# Altium integrated library Lattice CPLD ispMACH.IntLib: 663 symbols (part 8 of 48)
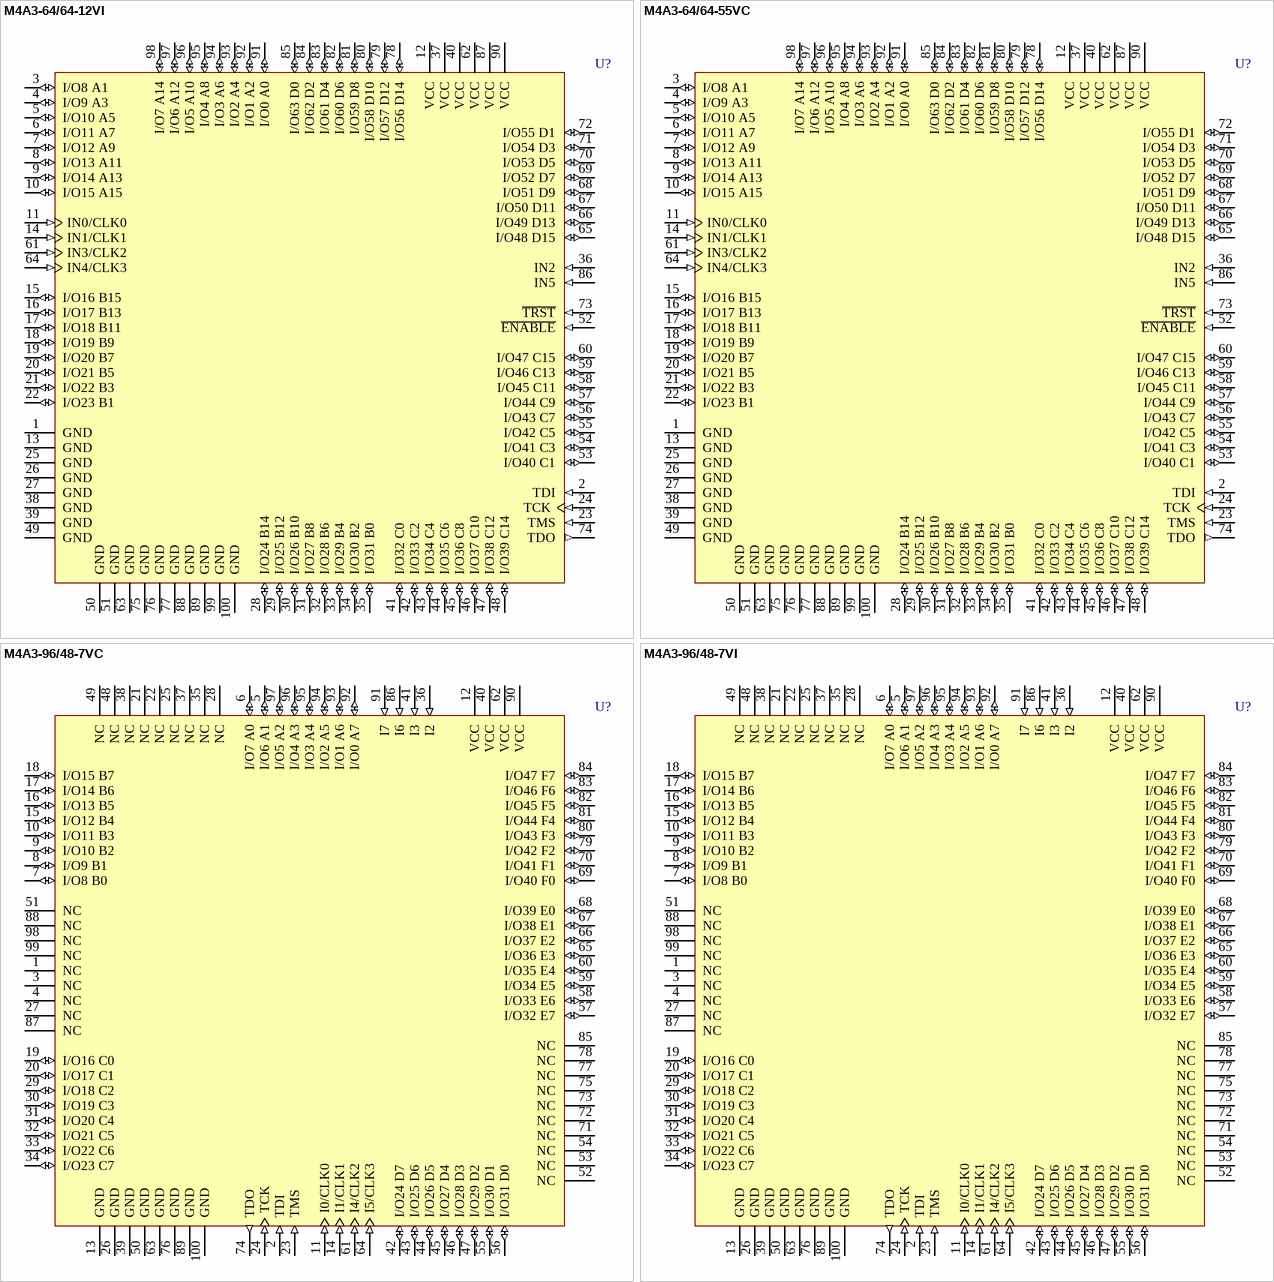
[diagram p313: symbols M4A3-64/64-12VI to M4A3-96/48-7VI]

## M4A3-64/64-55VC
designator U?
High-Performance EE CMOS In-System Programmable Logic; Published: 17-Jul-2002; LatestRevisionDate: 13-Apr-2006; LatestRevisionNote: IPC-7351 Footprint Added.; DatasheetVersion: Feb-2001; PackageVersion: pkg_32, Aug-2005; PackageReference: TQFP100; Publisher: Altium Limited; PackageDescription: 100-Pin Thin Quad Flat Pack (TQFP100); Code_JEDEC: MS-026-BED; ComponentLink1Description: Manufacturer Link; ComponentLink1URL: http://www.latticesemi.com/products/mature/index.cfm; ComponentLink2Description: Datasheet; ComponentLink2URL: http://www.latticesemi.com/account/_download.cfm?AMID=1344
footprint TQFP100_N (Thin QFP, 100-Leads, Body 14x14mm, Pitch 0.5mm, IPC Medium Density)
footprint TQFP100_L (Thin QFP, 100-Leads, Body 14x14mm, Pitch 0.5mm, IPC High Density)
footprint TQFP100_M (Thin QFP, 100-Leads, Body 14x14mm, Pitch 0.5mm, IPC Low Density)
3D model M4A3-TQFP100 (100-Pin Thin Quad Flat Pack (TQFP100))
pins: 1 GND (power), 2 TDI (in), 3 I/O8 A1 (io), 4 I/O9 A3 (io), 5 I/O10 A5 (io), 6 I/O11 A7 (io), 7 I/O12 A9 (io), 8 I/O13 A11 (io), 9 I/O14 A13 (io), 10 I/O15 A15 (io), 11 IN0/CLK0 (in), 12 VCC (power), 13 GND (power), 14 IN1/CLK1 (in), 15 I/O16 B15 (io), 16 I/O17 B13 (io), 17 I/O18 B11 (io), 18 I/O19 B9 (io), 19 I/O20 B7 (io), 20 I/O21 B5 (io), 21 I/O22 B3 (io), 22 I/O23 B1 (io), 23 TMS (in), 24 TCK (in), 25 GND (power), 26 GND (power), 27 GND (power), 28 I/O24 B14 (io), 29 I/O25 B12 (io), 30 I/O26 B10 (io), 31 I/O27 B8 (io), 32 I/O28 B6 (io), 33 I/O29 B4 (io), 34 I/O30 B2 (io), 35 I/O31 B0 (io), 36 IN2 (in), 37 VCC (power), 38 GND (power), 39 GND (power), 40 VCC (power), 41 I/O32 C0 (io), 42 I/O33 C2 (io), 43 I/O34 C4 (io), 44 I/O35 C6 (io), 45 I/O36 C8 (io), 46 I/O37 C10 (io), 47 I/O38 C12 (io), 48 I/O39 C14 (io), 49 GND (power), 50 GND (power), 51 GND (power), 52 ~{ENABLE} (in), 53 I/O40 C1 (io), 54 I/O41 C3 (io), 55 I/O42 C5 (io), 56 I/O43 C7 (io), 57 I/O44 C9 (io), 58 I/O45 C11 (io), 59 I/O46 C13 (io), 60 I/O47 C15 (io), 61 IN3/CLK2 (in), 62 VCC (power), 63 GND (power), 64 IN4/CLK3 (in), 65 I/O48 D15 (io), 66 I/O49 D13 (io), 67 I/O50 D11 (io), 68 I/O51 D9 (io), 69 I/O52 D7 (io), 70 I/O53 D5 (io), 71 I/O54 D3 (io), 72 I/O55 D1 (io), 73 ~{TRST} (in), 74 TDO (out), 75 GND (power), 76 GND (power), 77 GND (power), 78 I/O56 D14 (io), 79 I/O57 D12 (io), 80 I/O58 D10 (io), 81 I/O59 D8 (io), 82 I/O60 D6 (io), 83 I/O61 D4 (io), 84 I/O62 D2 (io), 85 I/O63 D0 (io), 86 IN5 (in), 87 VCC (power), 88 GND (power), 89 GND (power), 90 VCC (power), 91 I/O0 A0 (io), 92 I/O1 A2 (io), 93 I/O2 A4 (io), 94 I/O3 A6 (io), 95 I/O4 A8 (io), 96 I/O5 A10 (io), 97 I/O6 A12 (io), 98 I/O7 A14 (io), 99 GND (power), 100 GND (power)

## M4A3-96/48-7VC
designator U?
High-Performance EE CMOS In-System Programmable Logic; Published: 17-Jul-2002; LatestRevisionDate: 13-Apr-2006; LatestRevisionNote: IPC-7351 Footprint Added.; DatasheetVersion: Feb-2001; PackageVersion: pkg_32, Aug-2005; PackageReference: TQFP100; Publisher: Altium Limited; PackageDescription: 100-Pin Thin Quad Flat Pack (TQFP100); Code_JEDEC: MS-026-BED; ComponentLink1Description: Manufacturer Link; ComponentLink1URL: http://www.latticesemi.com/products/mature/index.cfm; ComponentLink2Description: Datasheet; ComponentLink2URL: http://www.latticesemi.com/account/_download.cfm?AMID=1344
footprint TQFP100_N (Thin QFP, 100-Leads, Body 14x14mm, Pitch 0.5mm, IPC Medium Density)
footprint TQFP100_L (Thin QFP, 100-Leads, Body 14x14mm, Pitch 0.5mm, IPC High Density)
footprint TQFP100_M (Thin QFP, 100-Leads, Body 14x14mm, Pitch 0.5mm, IPC Low Density)
3D model M4A3-TQFP100 (100-Pin Thin Quad Flat Pack (TQFP100))
pins: 1 NC, 2 TDI (in), 3 NC, 4 NC, 5 I/O6 A1 (io), 6 I/O7 A0 (io), 7 I/O8 B0 (io), 8 I/O9 B1 (io), 9 I/O10 B2 (io), 10 I/O11 B3 (io), 11 I0/CLK0 (in), 12 VCC (power), 13 GND (power), 14 I1/CLK1 (in), 15 I/O12 B4 (io), 16 I/O13 B5 (io), 17 I/O14 B6 (io), 18 I/O15 B7 (io), 19 I/O16 C0 (io), 20 I/O17 C1 (io), 21 NC, 22 NC, 23 TMS (in), 24 TCK (in), 25 NC, 26 GND (power), 27 NC, 28 NC, 29 I/O18 C2 (io), 30 I/O19 C3 (io), 31 I/O20 C4 (io), 32 I/O21 C5 (io), 33 I/O22 C6 (io), 34 I/O23 C7 (io), 35 NC, 36 I2 (in), 37 NC, 38 NC, 39 GND (power), 40 VCC (power), 41 I3 (in), 42 I/O24 D7 (io), 43 I/O25 D6 (io), 44 I/O26 D5 (io), 45 I/O27 D4 (io), 46 I/O28 D3 (io), 47 I/O29 D2 (io), 48 NC, 49 NC, 50 GND (power), 51 NC, 52 NC, 53 NC, 54 NC, 55 I/O30 D1 (io), 56 I/O31 D0 (io), 57 I/O32 E7 (io), 58 I/O33 E6 (io), 59 I/O34 E5 (io), 60 I/O35 E4 (io), 61 I4/CLK2 (in), 62 VCC (power), 63 GND (power), 64 I5/CLK3 (in), 65 I/O36 E3 (io), 66 I/O37 E2 (io), 67 I/O38 E1 (io), 68 I/O39 E0 (io), 69 I/O40 F0 (io), 70 I/O41 F1 (io), 71 NC, 72 NC, 73 NC, 74 TDO (out), 75 NC, 76 GND (power), 77 NC, 78 NC, 79 I/O42 F2 (io), 80 I/O43 F3 (io), 81 I/O44 F4 (io), 82 I/O45 F5 (io), 83 I/O46 F6 (io), 84 I/O47 F7 (io), 85 NC, 86 I6 (in), 87 NC, 88 NC, 89 GND (power), 90 VCC (power), 91 I7 (in), 92 I/O0 A7 (io), 93 I/O1 A6 (io), 94 I/O2 A5 (io), 95 I/O3 A4 (io), 96 I/O4 A3 (io), 97 I/O5 A2 (io), 98 NC, 99 NC, 100 GND (power)

## M4A3-96/48-7VI
designator U?
High-Performance EE CMOS In-System Programmable Logic; Published: 17-Jul-2002; LatestRevisionDate: 13-Apr-2006; LatestRevisionNote: IPC-7351 Footprint Added.; DatasheetVersion: Feb-2001; PackageVersion: pkg_32, Aug-2005; PackageReference: TQFP100; Publisher: Altium Limited; PackageDescription: 100-Pin Thin Quad Flat Pack (TQFP100); Code_JEDEC: MS-026-BED; ComponentLink1Description: Manufacturer Link; ComponentLink1URL: http://www.latticesemi.com/products/mature/index.cfm; ComponentLink2Description: Datasheet; ComponentLink2URL: http://www.latticesemi.com/account/_download.cfm?AMID=1344
footprint TQFP100_N (Thin QFP, 100-Leads, Body 14x14mm, Pitch 0.5mm, IPC Medium Density)
footprint TQFP100_L (Thin QFP, 100-Leads, Body 14x14mm, Pitch 0.5mm, IPC High Density)
footprint TQFP100_M (Thin QFP, 100-Leads, Body 14x14mm, Pitch 0.5mm, IPC Low Density)
3D model M4A3-TQFP100 (100-Pin Thin Quad Flat Pack (TQFP100))
pins: 1 NC, 2 TDI (in), 3 NC, 4 NC, 5 I/O6 A1 (io), 6 I/O7 A0 (io), 7 I/O8 B0 (io), 8 I/O9 B1 (io), 9 I/O10 B2 (io), 10 I/O11 B3 (io), 11 I0/CLK0 (in), 12 VCC (power), 13 GND (power), 14 I1/CLK1 (in), 15 I/O12 B4 (io), 16 I/O13 B5 (io), 17 I/O14 B6 (io), 18 I/O15 B7 (io), 19 I/O16 C0 (io), 20 I/O17 C1 (io), 21 NC, 22 NC, 23 TMS (in), 24 TCK (in), 25 NC, 26 GND (power), 27 NC, 28 NC, 29 I/O18 C2 (io), 30 I/O19 C3 (io), 31 I/O20 C4 (io), 32 I/O21 C5 (io), 33 I/O22 C6 (io), 34 I/O23 C7 (io), 35 NC, 36 I2 (in), 37 NC, 38 NC, 39 GND (power), 40 VCC (power), 41 I3 (in), 42 I/O24 D7 (io), 43 I/O25 D6 (io), 44 I/O26 D5 (io), 45 I/O27 D4 (io), 46 I/O28 D3 (io), 47 I/O29 D2 (io), 48 NC, 49 NC, 50 GND (power), 51 NC, 52 NC, 53 NC, 54 NC, 55 I/O30 D1 (io), 56 I/O31 D0 (io), 57 I/O32 E7 (io), 58 I/O33 E6 (io), 59 I/O34 E5 (io), 60 I/O35 E4 (io), 61 I4/CLK2 (in), 62 VCC (power), 63 GND (power), 64 I5/CLK3 (in), 65 I/O36 E3 (io), 66 I/O37 E2 (io), 67 I/O38 E1 (io), 68 I/O39 E0 (io), 69 I/O40 F0 (io), 70 I/O41 F1 (io), 71 NC, 72 NC, 73 NC, 74 TDO (out), 75 NC, 76 GND (power), 77 NC, 78 NC, 79 I/O42 F2 (io), 80 I/O43 F3 (io), 81 I/O44 F4 (io), 82 I/O45 F5 (io), 83 I/O46 F6 (io), 84 I/O47 F7 (io), 85 NC, 86 I6 (in), 87 NC, 88 NC, 89 GND (power), 90 VCC (power), 91 I7 (in), 92 I/O0 A7 (io), 93 I/O1 A6 (io), 94 I/O2 A5 (io), 95 I/O3 A4 (io), 96 I/O4 A3 (io), 97 I/O5 A2 (io), 98 NC, 99 NC, 100 GND (power)

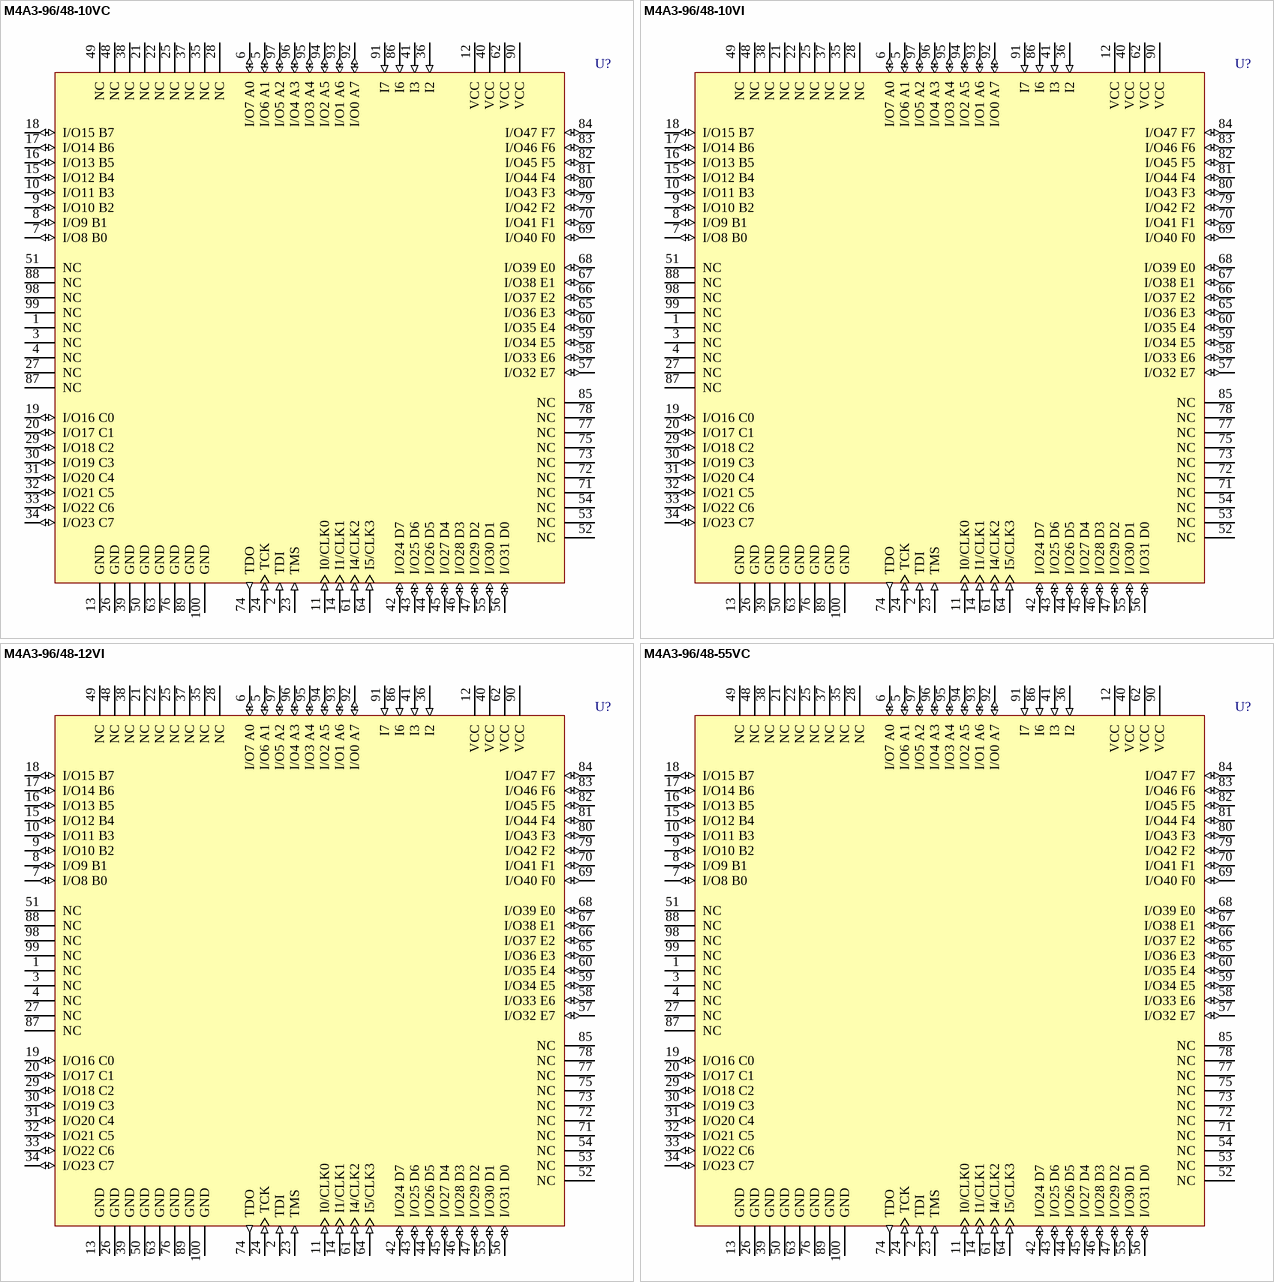
[diagram p31: symbols M4A3-96/48-10VC to M4A3-96/48-55VC]

## M4A3-96/48-10VC
designator U?
High-Performance EE CMOS In-System Programmable Logic; Published: 17-Jul-2002; LatestRevisionDate: 13-Apr-2006; LatestRevisionNote: IPC-7351 Footprint Added.; DatasheetVersion: Feb-2001; PackageVersion: pkg_32, Aug-2005; PackageReference: TQFP100; Publisher: Altium Limited; PackageDescription: 100-Pin Thin Quad Flat Pack (TQFP100); Code_JEDEC: MS-026-BED; ComponentLink1Description: Manufacturer Link; ComponentLink1URL: http://www.latticesemi.com/products/mature/index.cfm; ComponentLink2Description: Datasheet; ComponentLink2URL: http://www.latticesemi.com/account/_download.cfm?AMID=1344
footprint TQFP100_N (Thin QFP, 100-Leads, Body 14x14mm, Pitch 0.5mm, IPC Medium Density)
footprint TQFP100_L (Thin QFP, 100-Leads, Body 14x14mm, Pitch 0.5mm, IPC High Density)
footprint TQFP100_M (Thin QFP, 100-Leads, Body 14x14mm, Pitch 0.5mm, IPC Low Density)
3D model M4A3-TQFP100 (100-Pin Thin Quad Flat Pack (TQFP100))
pins: 1 NC, 2 TDI (in), 3 NC, 4 NC, 5 I/O6 A1 (io), 6 I/O7 A0 (io), 7 I/O8 B0 (io), 8 I/O9 B1 (io), 9 I/O10 B2 (io), 10 I/O11 B3 (io), 11 I0/CLK0 (in), 12 VCC (power), 13 GND (power), 14 I1/CLK1 (in), 15 I/O12 B4 (io), 16 I/O13 B5 (io), 17 I/O14 B6 (io), 18 I/O15 B7 (io), 19 I/O16 C0 (io), 20 I/O17 C1 (io), 21 NC, 22 NC, 23 TMS (in), 24 TCK (in), 25 NC, 26 GND (power), 27 NC, 28 NC, 29 I/O18 C2 (io), 30 I/O19 C3 (io), 31 I/O20 C4 (io), 32 I/O21 C5 (io), 33 I/O22 C6 (io), 34 I/O23 C7 (io), 35 NC, 36 I2 (in), 37 NC, 38 NC, 39 GND (power), 40 VCC (power), 41 I3 (in), 42 I/O24 D7 (io), 43 I/O25 D6 (io), 44 I/O26 D5 (io), 45 I/O27 D4 (io), 46 I/O28 D3 (io), 47 I/O29 D2 (io), 48 NC, 49 NC, 50 GND (power), 51 NC, 52 NC, 53 NC, 54 NC, 55 I/O30 D1 (io), 56 I/O31 D0 (io), 57 I/O32 E7 (io), 58 I/O33 E6 (io), 59 I/O34 E5 (io), 60 I/O35 E4 (io), 61 I4/CLK2 (in), 62 VCC (power), 63 GND (power), 64 I5/CLK3 (in), 65 I/O36 E3 (io), 66 I/O37 E2 (io), 67 I/O38 E1 (io), 68 I/O39 E0 (io), 69 I/O40 F0 (io), 70 I/O41 F1 (io), 71 NC, 72 NC, 73 NC, 74 TDO (out), 75 NC, 76 GND (power), 77 NC, 78 NC, 79 I/O42 F2 (io), 80 I/O43 F3 (io), 81 I/O44 F4 (io), 82 I/O45 F5 (io), 83 I/O46 F6 (io), 84 I/O47 F7 (io), 85 NC, 86 I6 (in), 87 NC, 88 NC, 89 GND (power), 90 VCC (power), 91 I7 (in), 92 I/O0 A7 (io), 93 I/O1 A6 (io), 94 I/O2 A5 (io), 95 I/O3 A4 (io), 96 I/O4 A3 (io), 97 I/O5 A2 (io), 98 NC, 99 NC, 100 GND (power)

## M4A3-96/48-10VI
designator U?
High-Performance EE CMOS In-System Programmable Logic; Published: 17-Jul-2002; LatestRevisionDate: 13-Apr-2006; LatestRevisionNote: IPC-7351 Footprint Added.; DatasheetVersion: Feb-2001; PackageVersion: pkg_32, Aug-2005; PackageReference: TQFP100; Publisher: Altium Limited; PackageDescription: 100-Pin Thin Quad Flat Pack (TQFP100); Code_JEDEC: MS-026-BED; ComponentLink1Description: Manufacturer Link; ComponentLink1URL: http://www.latticesemi.com/products/mature/index.cfm; ComponentLink2Description: Datasheet; ComponentLink2URL: http://www.latticesemi.com/account/_download.cfm?AMID=1344
footprint TQFP100_N (Thin QFP, 100-Leads, Body 14x14mm, Pitch 0.5mm, IPC Medium Density)
footprint TQFP100_L (Thin QFP, 100-Leads, Body 14x14mm, Pitch 0.5mm, IPC High Density)
footprint TQFP100_M (Thin QFP, 100-Leads, Body 14x14mm, Pitch 0.5mm, IPC Low Density)
3D model M4A3-TQFP100 (100-Pin Thin Quad Flat Pack (TQFP100))
pins: 1 NC, 2 TDI (in), 3 NC, 4 NC, 5 I/O6 A1 (io), 6 I/O7 A0 (io), 7 I/O8 B0 (io), 8 I/O9 B1 (io), 9 I/O10 B2 (io), 10 I/O11 B3 (io), 11 I0/CLK0 (in), 12 VCC (power), 13 GND (power), 14 I1/CLK1 (in), 15 I/O12 B4 (io), 16 I/O13 B5 (io), 17 I/O14 B6 (io), 18 I/O15 B7 (io), 19 I/O16 C0 (io), 20 I/O17 C1 (io), 21 NC, 22 NC, 23 TMS (in), 24 TCK (in), 25 NC, 26 GND (power), 27 NC, 28 NC, 29 I/O18 C2 (io), 30 I/O19 C3 (io), 31 I/O20 C4 (io), 32 I/O21 C5 (io), 33 I/O22 C6 (io), 34 I/O23 C7 (io), 35 NC, 36 I2 (in), 37 NC, 38 NC, 39 GND (power), 40 VCC (power), 41 I3 (in), 42 I/O24 D7 (io), 43 I/O25 D6 (io), 44 I/O26 D5 (io), 45 I/O27 D4 (io), 46 I/O28 D3 (io), 47 I/O29 D2 (io), 48 NC, 49 NC, 50 GND (power), 51 NC, 52 NC, 53 NC, 54 NC, 55 I/O30 D1 (io), 56 I/O31 D0 (io), 57 I/O32 E7 (io), 58 I/O33 E6 (io), 59 I/O34 E5 (io), 60 I/O35 E4 (io), 61 I4/CLK2 (in), 62 VCC (power), 63 GND (power), 64 I5/CLK3 (in), 65 I/O36 E3 (io), 66 I/O37 E2 (io), 67 I/O38 E1 (io), 68 I/O39 E0 (io), 69 I/O40 F0 (io), 70 I/O41 F1 (io), 71 NC, 72 NC, 73 NC, 74 TDO (out), 75 NC, 76 GND (power), 77 NC, 78 NC, 79 I/O42 F2 (io), 80 I/O43 F3 (io), 81 I/O44 F4 (io), 82 I/O45 F5 (io), 83 I/O46 F6 (io), 84 I/O47 F7 (io), 85 NC, 86 I6 (in), 87 NC, 88 NC, 89 GND (power), 90 VCC (power), 91 I7 (in), 92 I/O0 A7 (io), 93 I/O1 A6 (io), 94 I/O2 A5 (io), 95 I/O3 A4 (io), 96 I/O4 A3 (io), 97 I/O5 A2 (io), 98 NC, 99 NC, 100 GND (power)

## M4A3-96/48-12VI
designator U?
High-Performance EE CMOS In-System Programmable Logic; Published: 17-Jul-2002; LatestRevisionDate: 13-Apr-2006; LatestRevisionNote: IPC-7351 Footprint Added.; DatasheetVersion: Feb-2001; PackageVersion: pkg_32, Aug-2005; PackageReference: TQFP100; Publisher: Altium Limited; PackageDescription: 100-Pin Thin Quad Flat Pack (TQFP100); Code_JEDEC: MS-026-BED; ComponentLink1Description: Manufacturer Link; ComponentLink1URL: http://www.latticesemi.com/products/mature/index.cfm; ComponentLink2Description: Datasheet; ComponentLink2URL: http://www.latticesemi.com/account/_download.cfm?AMID=1344
footprint TQFP100_N (Thin QFP, 100-Leads, Body 14x14mm, Pitch 0.5mm, IPC Medium Density)
footprint TQFP100_L (Thin QFP, 100-Leads, Body 14x14mm, Pitch 0.5mm, IPC High Density)
footprint TQFP100_M (Thin QFP, 100-Leads, Body 14x14mm, Pitch 0.5mm, IPC Low Density)
3D model M4A3-TQFP100 (100-Pin Thin Quad Flat Pack (TQFP100))
pins: 1 NC, 2 TDI (in), 3 NC, 4 NC, 5 I/O6 A1 (io), 6 I/O7 A0 (io), 7 I/O8 B0 (io), 8 I/O9 B1 (io), 9 I/O10 B2 (io), 10 I/O11 B3 (io), 11 I0/CLK0 (in), 12 VCC (power), 13 GND (power), 14 I1/CLK1 (in), 15 I/O12 B4 (io), 16 I/O13 B5 (io), 17 I/O14 B6 (io), 18 I/O15 B7 (io), 19 I/O16 C0 (io), 20 I/O17 C1 (io), 21 NC, 22 NC, 23 TMS (in), 24 TCK (in), 25 NC, 26 GND (power), 27 NC, 28 NC, 29 I/O18 C2 (io), 30 I/O19 C3 (io), 31 I/O20 C4 (io), 32 I/O21 C5 (io), 33 I/O22 C6 (io), 34 I/O23 C7 (io), 35 NC, 36 I2 (in), 37 NC, 38 NC, 39 GND (power), 40 VCC (power), 41 I3 (in), 42 I/O24 D7 (io), 43 I/O25 D6 (io), 44 I/O26 D5 (io), 45 I/O27 D4 (io), 46 I/O28 D3 (io), 47 I/O29 D2 (io), 48 NC, 49 NC, 50 GND (power), 51 NC, 52 NC, 53 NC, 54 NC, 55 I/O30 D1 (io), 56 I/O31 D0 (io), 57 I/O32 E7 (io), 58 I/O33 E6 (io), 59 I/O34 E5 (io), 60 I/O35 E4 (io), 61 I4/CLK2 (in), 62 VCC (power), 63 GND (power), 64 I5/CLK3 (in), 65 I/O36 E3 (io), 66 I/O37 E2 (io), 67 I/O38 E1 (io), 68 I/O39 E0 (io), 69 I/O40 F0 (io), 70 I/O41 F1 (io), 71 NC, 72 NC, 73 NC, 74 TDO (out), 75 NC, 76 GND (power), 77 NC, 78 NC, 79 I/O42 F2 (io), 80 I/O43 F3 (io), 81 I/O44 F4 (io), 82 I/O45 F5 (io), 83 I/O46 F6 (io), 84 I/O47 F7 (io), 85 NC, 86 I6 (in), 87 NC, 88 NC, 89 GND (power), 90 VCC (power), 91 I7 (in), 92 I/O0 A7 (io), 93 I/O1 A6 (io), 94 I/O2 A5 (io), 95 I/O3 A4 (io), 96 I/O4 A3 (io), 97 I/O5 A2 (io), 98 NC, 99 NC, 100 GND (power)

## M4A3-96/48-55VC
designator U?
High-Performance EE CMOS In-System Programmable Logic; Published: 17-Jul-2002; LatestRevisionDate: 13-Apr-2006; LatestRevisionNote: IPC-7351 Footprint Added.; DatasheetVersion: Feb-2001; PackageVersion: pkg_32, Aug-2005; PackageReference: TQFP100; Publisher: Altium Limited; PackageDescription: 100-Pin Thin Quad Flat Pack (TQFP100); Code_JEDEC: MS-026-BED; ComponentLink1Description: Manufacturer Link; ComponentLink1URL: http://www.latticesemi.com/products/mature/index.cfm; ComponentLink2Description: Datasheet; ComponentLink2URL: http://www.latticesemi.com/account/_download.cfm?AMID=1344
footprint TQFP100_N (Thin QFP, 100-Leads, Body 14x14mm, Pitch 0.5mm, IPC Medium Density)
footprint TQFP100_L (Thin QFP, 100-Leads, Body 14x14mm, Pitch 0.5mm, IPC High Density)
footprint TQFP100_M (Thin QFP, 100-Leads, Body 14x14mm, Pitch 0.5mm, IPC Low Density)
3D model M4A3-TQFP100 (100-Pin Thin Quad Flat Pack (TQFP100))
pins: 1 NC, 2 TDI (in), 3 NC, 4 NC, 5 I/O6 A1 (io), 6 I/O7 A0 (io), 7 I/O8 B0 (io), 8 I/O9 B1 (io), 9 I/O10 B2 (io), 10 I/O11 B3 (io), 11 I0/CLK0 (in), 12 VCC (power), 13 GND (power), 14 I1/CLK1 (in), 15 I/O12 B4 (io), 16 I/O13 B5 (io), 17 I/O14 B6 (io), 18 I/O15 B7 (io), 19 I/O16 C0 (io), 20 I/O17 C1 (io), 21 NC, 22 NC, 23 TMS (in), 24 TCK (in), 25 NC, 26 GND (power), 27 NC, 28 NC, 29 I/O18 C2 (io), 30 I/O19 C3 (io), 31 I/O20 C4 (io), 32 I/O21 C5 (io), 33 I/O22 C6 (io), 34 I/O23 C7 (io), 35 NC, 36 I2 (in), 37 NC, 38 NC, 39 GND (power), 40 VCC (power), 41 I3 (in), 42 I/O24 D7 (io), 43 I/O25 D6 (io), 44 I/O26 D5 (io), 45 I/O27 D4 (io), 46 I/O28 D3 (io), 47 I/O29 D2 (io), 48 NC, 49 NC, 50 GND (power), 51 NC, 52 NC, 53 NC, 54 NC, 55 I/O30 D1 (io), 56 I/O31 D0 (io), 57 I/O32 E7 (io), 58 I/O33 E6 (io), 59 I/O34 E5 (io), 60 I/O35 E4 (io), 61 I4/CLK2 (in), 62 VCC (power), 63 GND (power), 64 I5/CLK3 (in), 65 I/O36 E3 (io), 66 I/O37 E2 (io), 67 I/O38 E1 (io), 68 I/O39 E0 (io), 69 I/O40 F0 (io), 70 I/O41 F1 (io), 71 NC, 72 NC, 73 NC, 74 TDO (out), 75 NC, 76 GND (power), 77 NC, 78 NC, 79 I/O42 F2 (io), 80 I/O43 F3 (io), 81 I/O44 F4 (io), 82 I/O45 F5 (io), 83 I/O46 F6 (io), 84 I/O47 F7 (io), 85 NC, 86 I6 (in), 87 NC, 88 NC, 89 GND (power), 90 VCC (power), 91 I7 (in), 92 I/O0 A7 (io), 93 I/O1 A6 (io), 94 I/O2 A5 (io), 95 I/O3 A4 (io), 96 I/O4 A3 (io), 97 I/O5 A2 (io), 98 NC, 99 NC, 100 GND (power)

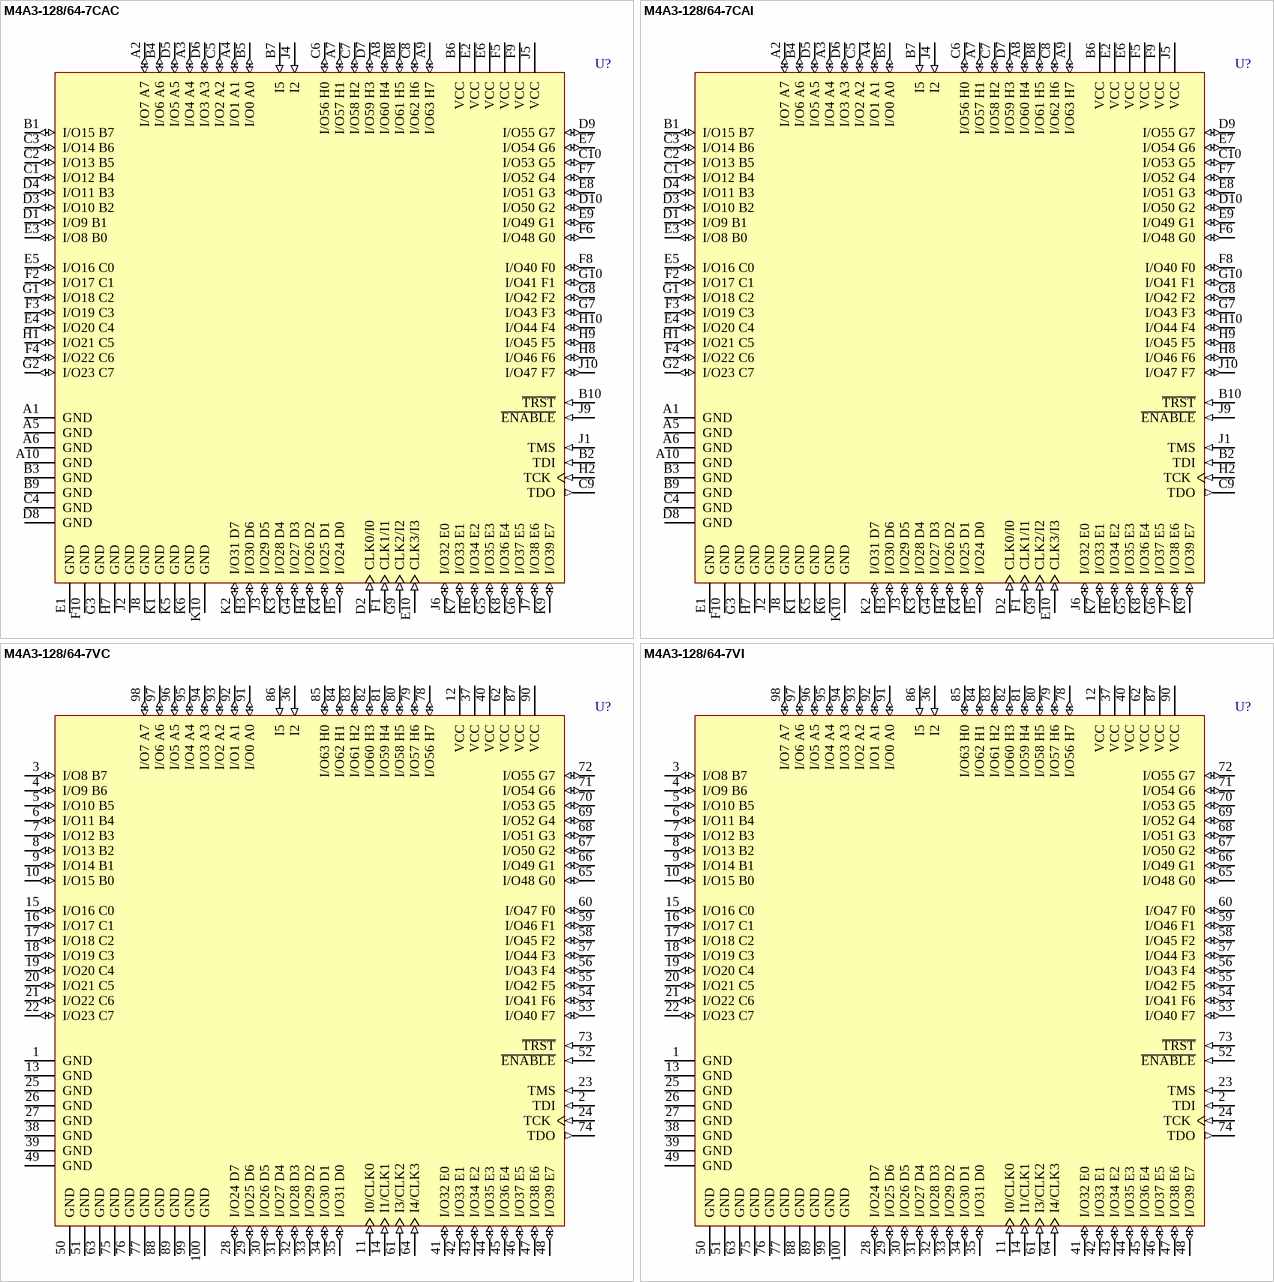
[diagram p32: symbols M4A3-128/64-7CAC to M4A3-128/64-7VI]

## M4A3-128/64-7CAC
designator U?
High-Performance EE CMOS In-System Programmable Logic; Published: 17-Jul-2002; LatestRevisionDate: 13-Apr-2006; LatestRevisionNote: IPC-7351 Footprint Added.; DatasheetVersion: Feb-2001; PackageVersion: pkg_32, Aug-2005; PackageReference: CaBGA100; Publisher: Altium Limited; PackageDescription: 100-Ball Chip Array Ball Grid Array (caBGA100); ComponentLink1Description: Manufacturer Link; ComponentLink1URL: http://www.latticesemi.com/products/mature/index.cfm; ComponentLink2Description: Datasheet; ComponentLink2URL: http://www.latticesemi.com/account/_download.cfm?AMID=1344
footprint caBGA100 (BGA, 100-Leads, Body 10x10mm, Pitch 0.8mm)
3D model M4A3-CaBGA100 (100-Ball Chip Array Ball Grid Array (caBGA100))
pins: A1 GND (power), A2 I/O7 A7 (io), A3 I/O4 A4 (io), A4 I/O1 A1 (io), A5 GND (power), A6 GND (power), A7 I/O57 H1 (io), A8 I/O60 H4 (io), A9 I/O63 H7 (io), A10 GND (power), B1 I/O15 B7 (io), B2 TDI (in), B3 GND (power), B4 I/O6 A6 (io), B5 I/O0 A0 (io), B6 VCC (power), B7 I5 (in), B8 I/O61 H5 (io), B9 GND (power), B10 ~{TRST} (in), C1 I/O12 B4 (io), C2 I/O13 B5 (io), C3 I/O14 B6 (io), C4 GND (power), C5 I/O2 A2 (io), C6 I/O56 H0 (io), C7 I/O58 H2 (io), C8 I/O62 H6 (io), C9 TDO (out), C10 I/O53 G5 (io), D1 I/O9 B1 (io), D2 CLK0/I0 (in), D3 I/O10 B2 (io), D4 I/O11 B3 (io), D5 I/O5 A5 (io), D6 I/O3 A3 (io), D7 I/O59 H3 (io), D8 GND (power), D9 I/O55 G7 (io), D10 I/O50 G2 (io), E1 GND (power), E2 VCC (power), E3 I/O8 B0 (io), E4 I/O20 C4 (io), E5 I/O16 C0 (io), E6 VCC (power), E7 I/O54 G6 (io), E8 I/O51 G3 (io), E9 I/O49 G1 (io), E10 CLK3/I3 (in), F1 CLK1/I1 (in), F2 I/O17 C1 (io), F3 I/O19 C3 (io), F4 I/O22 C6 (io), F5 VCC (power), F6 I/O48 G0 (io), F7 I/O52 G4 (io), F8 I/O40 F0 (io), F9 VCC (power), F10 GND (power), G1 I/O18 C2 (io), G2 I/O23 C7 (io), G3 GND (power), G4 I/O27 D3 (io), G5 I/O35 E3 (io), G6 I/O37 E5 (io), G7 I/O43 F3 (io), G8 I/O42 F2 (io), G9 CLK2/I2 (in), G10 I/O41 F1 (io), H1 I/O21 C5 (io), H2 TCK (in), H3 I/O30 D6 (io), H4 I/O26 D2 (io), H5 I/O24 D0 (io), H6 I/O34 E2 (io), H7 GND (power), H8 I/O46 F6 (io), H9 I/O45 F5 (io), H10 I/O44 F4 (io), J1 TMS (in), J2 GND (power), J3 I/O29 D5 (io), J4 I2 (in), J5 VCC (power), J6 I/O32 E0 (io), J7 I/O38 E6 (io), J8 GND (power), J9 ~{ENABLE} (in), J10 I/O47 F7 (io), K1 GND (power), K2 I/O31 D7 (io), K3 I/O28 D4 (io), K4 I/O25 D1 (io), K5 GND (power), K6 GND (power), K7 I/O33 E1 (io), K8 I/O36 E4 (io), K9 I/O39 E7 (io), K10 GND (power)

## M4A3-128/64-7CAI
designator U?
High-Performance EE CMOS In-System Programmable Logic; Published: 17-Jul-2002; LatestRevisionDate: 13-Apr-2006; LatestRevisionNote: IPC-7351 Footprint Added.; DatasheetVersion: Feb-2001; PackageVersion: pkg_32, Aug-2005; PackageReference: CaBGA100; Publisher: Altium Limited; PackageDescription: 100-Ball Chip Array Ball Grid Array (caBGA100); ComponentLink1Description: Manufacturer Link; ComponentLink1URL: http://www.latticesemi.com/products/mature/index.cfm; ComponentLink2Description: Datasheet; ComponentLink2URL: http://www.latticesemi.com/account/_download.cfm?AMID=1344
footprint caBGA100 (BGA, 100-Leads, Body 10x10mm, Pitch 0.8mm)
3D model M4A3-CaBGA100 (100-Ball Chip Array Ball Grid Array (caBGA100))
pins: A1 GND (power), A2 I/O7 A7 (io), A3 I/O4 A4 (io), A4 I/O1 A1 (io), A5 GND (power), A6 GND (power), A7 I/O57 H1 (io), A8 I/O60 H4 (io), A9 I/O63 H7 (io), A10 GND (power), B1 I/O15 B7 (io), B2 TDI (in), B3 GND (power), B4 I/O6 A6 (io), B5 I/O0 A0 (io), B6 VCC (power), B7 I5 (in), B8 I/O61 H5 (io), B9 GND (power), B10 ~{TRST} (in), C1 I/O12 B4 (io), C2 I/O13 B5 (io), C3 I/O14 B6 (io), C4 GND (power), C5 I/O2 A2 (io), C6 I/O56 H0 (io), C7 I/O58 H2 (io), C8 I/O62 H6 (io), C9 TDO (out), C10 I/O53 G5 (io), D1 I/O9 B1 (io), D2 CLK0/I0 (in), D3 I/O10 B2 (io), D4 I/O11 B3 (io), D5 I/O5 A5 (io), D6 I/O3 A3 (io), D7 I/O59 H3 (io), D8 GND (power), D9 I/O55 G7 (io), D10 I/O50 G2 (io), E1 GND (power), E2 VCC (power), E3 I/O8 B0 (io), E4 I/O20 C4 (io), E5 I/O16 C0 (io), E6 VCC (power), E7 I/O54 G6 (io), E8 I/O51 G3 (io), E9 I/O49 G1 (io), E10 CLK3/I3 (in), F1 CLK1/I1 (in), F2 I/O17 C1 (io), F3 I/O19 C3 (io), F4 I/O22 C6 (io), F5 VCC (power), F6 I/O48 G0 (io), F7 I/O52 G4 (io), F8 I/O40 F0 (io), F9 VCC (power), F10 GND (power), G1 I/O18 C2 (io), G2 I/O23 C7 (io), G3 GND (power), G4 I/O27 D3 (io), G5 I/O35 E3 (io), G6 I/O37 E5 (io), G7 I/O43 F3 (io), G8 I/O42 F2 (io), G9 CLK2/I2 (in), G10 I/O41 F1 (io), H1 I/O21 C5 (io), H2 TCK (in), H3 I/O30 D6 (io), H4 I/O26 D2 (io), H5 I/O24 D0 (io), H6 I/O34 E2 (io), H7 GND (power), H8 I/O46 F6 (io), H9 I/O45 F5 (io), H10 I/O44 F4 (io), J1 TMS (in), J2 GND (power), J3 I/O29 D5 (io), J4 I2 (in), J5 VCC (power), J6 I/O32 E0 (io), J7 I/O38 E6 (io), J8 GND (power), J9 ~{ENABLE} (in), J10 I/O47 F7 (io), K1 GND (power), K2 I/O31 D7 (io), K3 I/O28 D4 (io), K4 I/O25 D1 (io), K5 GND (power), K6 GND (power), K7 I/O33 E1 (io), K8 I/O36 E4 (io), K9 I/O39 E7 (io), K10 GND (power)

## M4A3-128/64-7VC
designator U?
High-Performance EE CMOS In-System Programmable Logic; Published: 17-Jul-2002; LatestRevisionDate: 13-Apr-2006; LatestRevisionNote: IPC-7351 Footprint Added.; DatasheetVersion: Feb-2001; PackageVersion: pkg_32, Aug-2005; PackageReference: TQFP100; Publisher: Altium Limited; PackageDescription: 100-Pin Thin Quad Flat Pack (TQFP100); Code_JEDEC: MS-026-BED; ComponentLink1Description: Manufacturer Link; ComponentLink1URL: http://www.latticesemi.com/products/mature/index.cfm; ComponentLink2Description: Datasheet; ComponentLink2URL: http://www.latticesemi.com/account/_download.cfm?AMID=1344
footprint TQFP100_N (Thin QFP, 100-Leads, Body 14x14mm, Pitch 0.5mm, IPC Medium Density)
footprint TQFP100_L (Thin QFP, 100-Leads, Body 14x14mm, Pitch 0.5mm, IPC High Density)
footprint TQFP100_M (Thin QFP, 100-Leads, Body 14x14mm, Pitch 0.5mm, IPC Low Density)
3D model M4A3-TQFP100 (100-Pin Thin Quad Flat Pack (TQFP100))
pins: 1 GND (power), 2 TDI (in), 3 I/O8 B7 (io), 4 I/O9 B6 (io), 5 I/O10 B5 (io), 6 I/O11 B4 (io), 7 I/O12 B3 (io), 8 I/O13 B2 (io), 9 I/O14 B1 (io), 10 I/O15 B0 (io), 11 I0/CLK0 (in), 12 VCC (power), 13 GND (power), 14 I1/CLK1 (in), 15 I/O16 C0 (io), 16 I/O17 C1 (io), 17 I/O18 C2 (io), 18 I/O19 C3 (io), 19 I/O20 C4 (io), 20 I/O21 C5 (io), 21 I/O22 C6 (io), 22 I/O23 C7 (io), 23 TMS (in), 24 TCK (in), 25 GND (power), 26 GND (power), 27 GND (power), 28 I/O24 D7 (io), 29 I/O25 D6 (io), 30 I/O26 D5 (io), 31 I/O27 D4 (io), 32 I/O28 D3 (io), 33 I/O29 D2 (io), 34 I/O30 D1 (io), 35 I/O31 D0 (io), 36 I2 (in), 37 VCC (power), 38 GND (power), 39 GND (power), 40 VCC (power), 41 I/O32 E0 (io), 42 I/O33 E1 (io), 43 I/O34 E2 (io), 44 I/O35 E3 (io), 45 I/O36 E4 (io), 46 I/O37 E5 (io), 47 I/O38 E6 (io), 48 I/O39 E7 (io), 49 GND (power), 50 GND (power), 51 GND (power), 52 ~{ENABLE} (in), 53 I/O40 F7 (io), 54 I/O41 F6 (io), 55 I/O42 F5 (io), 56 I/O43 F4 (io), 57 I/O44 F3 (io), 58 I/O45 F2 (io), 59 I/O46 F1 (io), 60 I/O47 F0 (io), 61 I3/CLK2 (in), 62 VCC (power), 63 GND (power), 64 I4/CLK3 (in), 65 I/O48 G0 (io), 66 I/O49 G1 (io), 67 I/O50 G2 (io), 68 I/O51 G3 (io), 69 I/O52 G4 (io), 70 I/O53 G5 (io), 71 I/O54 G6 (io), 72 I/O55 G7 (io), 73 ~{TRST} (in), 74 TDO (out), 75 GND (power), 76 GND (power), 77 GND (power), 78 I/O56 H7 (io), 79 I/O57 H6 (io), 80 I/O58 H5 (io), 81 I/O59 H4 (io), 82 I/O60 H3 (io), 83 I/O61 H2 (io), 84 I/O62 H1 (io), 85 I/O63 H0 (io), 86 I5 (in), 87 VCC (power), 88 GND (power), 89 GND (power), 90 VCC (power), 91 I/O0 A0 (io), 92 I/O1 A1 (io), 93 I/O2 A2 (io), 94 I/O3 A3 (io), 95 I/O4 A4 (io), 96 I/O5 A5 (io), 97 I/O6 A6 (io), 98 I/O7 A7 (io), 99 GND (power), 100 GND (power)

## M4A3-128/64-7VI
designator U?
High-Performance EE CMOS In-System Programmable Logic; Published: 17-Jul-2002; LatestRevisionDate: 13-Apr-2006; LatestRevisionNote: IPC-7351 Footprint Added.; DatasheetVersion: Feb-2001; PackageVersion: pkg_32, Aug-2005; PackageReference: TQFP100; Publisher: Altium Limited; PackageDescription: 100-Pin Thin Quad Flat Pack (TQFP100); Code_JEDEC: MS-026-BED; ComponentLink1Description: Manufacturer Link; ComponentLink1URL: http://www.latticesemi.com/products/mature/index.cfm; ComponentLink2Description: Datasheet; ComponentLink2URL: http://www.latticesemi.com/account/_download.cfm?AMID=1344
footprint TQFP100_N (Thin QFP, 100-Leads, Body 14x14mm, Pitch 0.5mm, IPC Medium Density)
footprint TQFP100_L (Thin QFP, 100-Leads, Body 14x14mm, Pitch 0.5mm, IPC High Density)
footprint TQFP100_M (Thin QFP, 100-Leads, Body 14x14mm, Pitch 0.5mm, IPC Low Density)
3D model M4A3-TQFP100 (100-Pin Thin Quad Flat Pack (TQFP100))
pins: 1 GND (power), 2 TDI (in), 3 I/O8 B7 (io), 4 I/O9 B6 (io), 5 I/O10 B5 (io), 6 I/O11 B4 (io), 7 I/O12 B3 (io), 8 I/O13 B2 (io), 9 I/O14 B1 (io), 10 I/O15 B0 (io), 11 I0/CLK0 (in), 12 VCC (power), 13 GND (power), 14 I1/CLK1 (in), 15 I/O16 C0 (io), 16 I/O17 C1 (io), 17 I/O18 C2 (io), 18 I/O19 C3 (io), 19 I/O20 C4 (io), 20 I/O21 C5 (io), 21 I/O22 C6 (io), 22 I/O23 C7 (io), 23 TMS (in), 24 TCK (in), 25 GND (power), 26 GND (power), 27 GND (power), 28 I/O24 D7 (io), 29 I/O25 D6 (io), 30 I/O26 D5 (io), 31 I/O27 D4 (io), 32 I/O28 D3 (io), 33 I/O29 D2 (io), 34 I/O30 D1 (io), 35 I/O31 D0 (io), 36 I2 (in), 37 VCC (power), 38 GND (power), 39 GND (power), 40 VCC (power), 41 I/O32 E0 (io), 42 I/O33 E1 (io), 43 I/O34 E2 (io), 44 I/O35 E3 (io), 45 I/O36 E4 (io), 46 I/O37 E5 (io), 47 I/O38 E6 (io), 48 I/O39 E7 (io), 49 GND (power), 50 GND (power), 51 GND (power), 52 ~{ENABLE} (in), 53 I/O40 F7 (io), 54 I/O41 F6 (io), 55 I/O42 F5 (io), 56 I/O43 F4 (io), 57 I/O44 F3 (io), 58 I/O45 F2 (io), 59 I/O46 F1 (io), 60 I/O47 F0 (io), 61 I3/CLK2 (in), 62 VCC (power), 63 GND (power), 64 I4/CLK3 (in), 65 I/O48 G0 (io), 66 I/O49 G1 (io), 67 I/O50 G2 (io), 68 I/O51 G3 (io), 69 I/O52 G4 (io), 70 I/O53 G5 (io), 71 I/O54 G6 (io), 72 I/O55 G7 (io), 73 ~{TRST} (in), 74 TDO (out), 75 GND (power), 76 GND (power), 77 GND (power), 78 I/O56 H7 (io), 79 I/O57 H6 (io), 80 I/O58 H5 (io), 81 I/O59 H4 (io), 82 I/O60 H3 (io), 83 I/O61 H2 (io), 84 I/O62 H1 (io), 85 I/O63 H0 (io), 86 I5 (in), 87 VCC (power), 88 GND (power), 89 GND (power), 90 VCC (power), 91 I/O0 A0 (io), 92 I/O1 A1 (io), 93 I/O2 A2 (io), 94 I/O3 A3 (io), 95 I/O4 A4 (io), 96 I/O5 A5 (io), 97 I/O6 A6 (io), 98 I/O7 A7 (io), 99 GND (power), 100 GND (power)

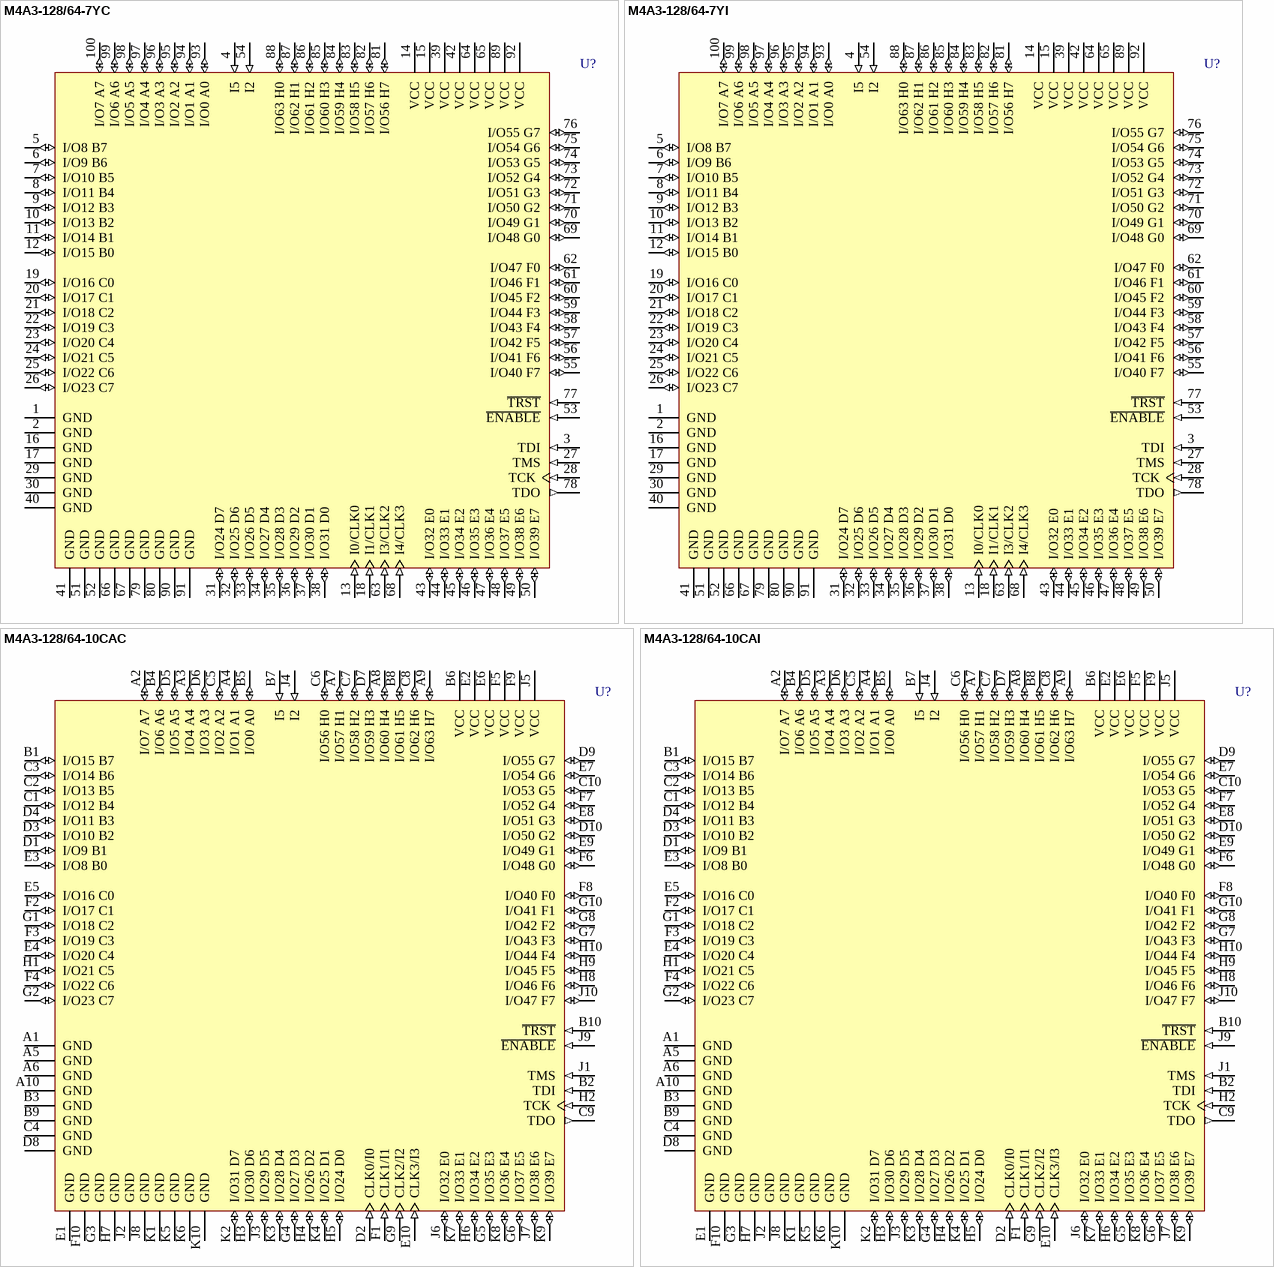
[diagram p33: symbols M4A3-128/64-7YC to M4A3-128/64-10CAI]

## M4A3-128/64-7YC
designator U?
High-Performance EE CMOS In-System Programmable Logic; Published: 17-Jul-2002; LatestRevisionDate: 13-Apr-2006; LatestRevisionNote: IPC-7351 Footprint Added.; DatasheetVersion: Feb-2001; PackageVersion: pkg_32, Aug-2005; PackageReference: PQFP100; Publisher: Altium Limited; PackageDescription: 100-Pin Quad Flat Pack Rectangular 0.65 mm Pitch; Code_IPC: QFP65P1720X2320-100; ComponentLink1Description: Manufacturer Link; ComponentLink1URL: http://www.latticesemi.com/products/mature/index.cfm; ComponentLink2Description: Datasheet; ComponentLink2URL: http://www.latticesemi.com/account/_download.cfm?AMID=1344
footprint PQFP100_N (QFP, 100-Leads, Body 20x14mm, Pitch 0.65mm, IPC Medium Density)
footprint PQFP100_L (QFP, 100-Leads, Body 20x14mm, Pitch 0.65mm, IPC High Density)
footprint PQFP100_M (QFP, 100-Leads, Body 20x14mm, Pitch 0.65mm, IPC Low Density)
3D model PQFP-100 (100-Pin Quad Flat Pack Rectangular 0.65 mm Pitch)
pins: 1 GND (power), 2 GND (power), 3 TDI (in), 4 I5 (in), 5 I/O8 B7 (io), 6 I/O9 B6 (io), 7 I/O10 B5 (io), 8 I/O11 B4 (io), 9 I/O12 B3 (io), 10 I/O13 B2 (io), 11 I/O14 B1 (io), 12 I/O15 B0 (io), 13 I0/CLK0 (in), 14 VCC (power), 15 VCC (power), 16 GND (power), 17 GND (power), 18 I1/CLK1 (in), 19 I/O16 C0 (io), 20 I/O17 C1 (io), 21 I/O18 C2 (io), 22 I/O19 C3 (io), 23 I/O20 C4 (io), 24 I/O21 C5 (io), 25 I/O22 C6 (io), 26 I/O23 C7 (io), 27 TMS (in), 28 TCK (in), 29 GND (power), 30 GND (power), 31 I/O24 D7 (io), 32 I/O25 D6 (io), 33 I/O26 D5 (io), 34 I/O27 D4 (io), 35 I/O28 D3 (io), 36 I/O29 D2 (io), 37 I/O30 D1 (io), 38 I/O31 D0 (io), 39 VCC (power), 40 GND (power), 41 GND (power), 42 VCC (power), 43 I/O32 E0 (io), 44 I/O33 E1 (io), 45 I/O34 E2 (io), 46 I/O35 E3 (io), 47 I/O36 E4 (io), 48 I/O37 E5 (io), 49 I/O38 E6 (io), 50 I/O39 E7 (io), 51 GND (power), 52 GND (power), 53 ~{ENABLE} (in), 54 I2 (in), 55 I/O40 F7 (io), 56 I/O41 F6 (io), 57 I/O42 F5 (io), 58 I/O43 F4 (io), 59 I/O44 F3 (io), 60 I/O45 F2 (io), 61 I/O46 F1 (io), 62 I/O47 F0 (io), 63 I3/CLK2 (in), 64 VCC (power), 65 VCC (power), 66 GND (power), 67 GND (power), 68 I4/CLK3 (in), 69 I/O48 G0 (io), 70 I/O49 G1 (io), 71 I/O50 G2 (io), 72 I/O51 G3 (io), 73 I/O52 G4 (io), 74 I/O53 G5 (io), 75 I/O54 G6 (io), 76 I/O55 G7 (io), 77 ~{TRST} (in), 78 TDO (out), 79 GND (power), 80 GND (power), 81 I/O56 H7 (io), 82 I/O57 H6 (io), 83 I/O58 H5 (io), 84 I/O59 H4 (io), 85 I/O60 H3 (io), 86 I/O61 H2 (io), 87 I/O62 H1 (io), 88 I/O63 H0 (io), 89 VCC (power), 90 GND (power), 91 GND (power), 92 VCC (power), 93 I/O0 A0 (io), 94 I/O1 A1 (io), 95 I/O2 A2 (io), 96 I/O3 A3 (io), 97 I/O4 A4 (io), 98 I/O5 A5 (io), 99 I/O6 A6 (io), 100 I/O7 A7 (io)

## M4A3-128/64-7YI
designator U?
High-Performance EE CMOS In-System Programmable Logic; Published: 17-Jul-2002; LatestRevisionDate: 13-Apr-2006; LatestRevisionNote: IPC-7351 Footprint Added.; DatasheetVersion: Feb-2001; PackageVersion: pkg_32, Aug-2005; PackageReference: PQFP100; Publisher: Altium Limited; PackageDescription: 100-Pin Quad Flat Pack Rectangular 0.65 mm Pitch; Code_IPC: QFP65P1720X2320-100; ComponentLink1Description: Manufacturer Link; ComponentLink1URL: http://www.latticesemi.com/products/mature/index.cfm; ComponentLink2Description: Datasheet; ComponentLink2URL: http://www.latticesemi.com/account/_download.cfm?AMID=1344
footprint PQFP100_N (QFP, 100-Leads, Body 20x14mm, Pitch 0.65mm, IPC Medium Density)
footprint PQFP100_L (QFP, 100-Leads, Body 20x14mm, Pitch 0.65mm, IPC High Density)
footprint PQFP100_M (QFP, 100-Leads, Body 20x14mm, Pitch 0.65mm, IPC Low Density)
3D model PQFP-100 (100-Pin Quad Flat Pack Rectangular 0.65 mm Pitch)
pins: 1 GND (power), 2 GND (power), 3 TDI (in), 4 I5 (in), 5 I/O8 B7 (io), 6 I/O9 B6 (io), 7 I/O10 B5 (io), 8 I/O11 B4 (io), 9 I/O12 B3 (io), 10 I/O13 B2 (io), 11 I/O14 B1 (io), 12 I/O15 B0 (io), 13 I0/CLK0 (in), 14 VCC (power), 15 VCC (power), 16 GND (power), 17 GND (power), 18 I1/CLK1 (in), 19 I/O16 C0 (io), 20 I/O17 C1 (io), 21 I/O18 C2 (io), 22 I/O19 C3 (io), 23 I/O20 C4 (io), 24 I/O21 C5 (io), 25 I/O22 C6 (io), 26 I/O23 C7 (io), 27 TMS (in), 28 TCK (in), 29 GND (power), 30 GND (power), 31 I/O24 D7 (io), 32 I/O25 D6 (io), 33 I/O26 D5 (io), 34 I/O27 D4 (io), 35 I/O28 D3 (io), 36 I/O29 D2 (io), 37 I/O30 D1 (io), 38 I/O31 D0 (io), 39 VCC (power), 40 GND (power), 41 GND (power), 42 VCC (power), 43 I/O32 E0 (io), 44 I/O33 E1 (io), 45 I/O34 E2 (io), 46 I/O35 E3 (io), 47 I/O36 E4 (io), 48 I/O37 E5 (io), 49 I/O38 E6 (io), 50 I/O39 E7 (io), 51 GND (power), 52 GND (power), 53 ~{ENABLE} (in), 54 I2 (in), 55 I/O40 F7 (io), 56 I/O41 F6 (io), 57 I/O42 F5 (io), 58 I/O43 F4 (io), 59 I/O44 F3 (io), 60 I/O45 F2 (io), 61 I/O46 F1 (io), 62 I/O47 F0 (io), 63 I3/CLK2 (in), 64 VCC (power), 65 VCC (power), 66 GND (power), 67 GND (power), 68 I4/CLK3 (in), 69 I/O48 G0 (io), 70 I/O49 G1 (io), 71 I/O50 G2 (io), 72 I/O51 G3 (io), 73 I/O52 G4 (io), 74 I/O53 G5 (io), 75 I/O54 G6 (io), 76 I/O55 G7 (io), 77 ~{TRST} (in), 78 TDO (out), 79 GND (power), 80 GND (power), 81 I/O56 H7 (io), 82 I/O57 H6 (io), 83 I/O58 H5 (io), 84 I/O59 H4 (io), 85 I/O60 H3 (io), 86 I/O61 H2 (io), 87 I/O62 H1 (io), 88 I/O63 H0 (io), 89 VCC (power), 90 GND (power), 91 GND (power), 92 VCC (power), 93 I/O0 A0 (io), 94 I/O1 A1 (io), 95 I/O2 A2 (io), 96 I/O3 A3 (io), 97 I/O4 A4 (io), 98 I/O5 A5 (io), 99 I/O6 A6 (io), 100 I/O7 A7 (io)

## M4A3-128/64-10CAC
designator U?
High-Performance EE CMOS In-System Programmable Logic; Published: 17-Jul-2002; LatestRevisionDate: 13-Apr-2006; LatestRevisionNote: IPC-7351 Footprint Added.; DatasheetVersion: Feb-2001; PackageVersion: pkg_32, Aug-2005; PackageReference: CaBGA100; Publisher: Altium Limited; PackageDescription: 100-Ball Chip Array Ball Grid Array (caBGA100); ComponentLink1Description: Manufacturer Link; ComponentLink1URL: http://www.latticesemi.com/products/mature/index.cfm; ComponentLink2Description: Datasheet; ComponentLink2URL: http://www.latticesemi.com/account/_download.cfm?AMID=1344
footprint caBGA100 (BGA, 100-Leads, Body 10x10mm, Pitch 0.8mm)
3D model M4A3-CaBGA100 (100-Ball Chip Array Ball Grid Array (caBGA100))
pins: A1 GND (power), A2 I/O7 A7 (io), A3 I/O4 A4 (io), A4 I/O1 A1 (io), A5 GND (power), A6 GND (power), A7 I/O57 H1 (io), A8 I/O60 H4 (io), A9 I/O63 H7 (io), A10 GND (power), B1 I/O15 B7 (io), B2 TDI (in), B3 GND (power), B4 I/O6 A6 (io), B5 I/O0 A0 (io), B6 VCC (power), B7 I5 (in), B8 I/O61 H5 (io), B9 GND (power), B10 ~{TRST} (in), C1 I/O12 B4 (io), C2 I/O13 B5 (io), C3 I/O14 B6 (io), C4 GND (power), C5 I/O2 A2 (io), C6 I/O56 H0 (io), C7 I/O58 H2 (io), C8 I/O62 H6 (io), C9 TDO (out), C10 I/O53 G5 (io), D1 I/O9 B1 (io), D2 CLK0/I0 (in), D3 I/O10 B2 (io), D4 I/O11 B3 (io), D5 I/O5 A5 (io), D6 I/O3 A3 (io), D7 I/O59 H3 (io), D8 GND (power), D9 I/O55 G7 (io), D10 I/O50 G2 (io), E1 GND (power), E2 VCC (power), E3 I/O8 B0 (io), E4 I/O20 C4 (io), E5 I/O16 C0 (io), E6 VCC (power), E7 I/O54 G6 (io), E8 I/O51 G3 (io), E9 I/O49 G1 (io), E10 CLK3/I3 (in), F1 CLK1/I1 (in), F2 I/O17 C1 (io), F3 I/O19 C3 (io), F4 I/O22 C6 (io), F5 VCC (power), F6 I/O48 G0 (io), F7 I/O52 G4 (io), F8 I/O40 F0 (io), F9 VCC (power), F10 GND (power), G1 I/O18 C2 (io), G2 I/O23 C7 (io), G3 GND (power), G4 I/O27 D3 (io), G5 I/O35 E3 (io), G6 I/O37 E5 (io), G7 I/O43 F3 (io), G8 I/O42 F2 (io), G9 CLK2/I2 (in), G10 I/O41 F1 (io), H1 I/O21 C5 (io), H2 TCK (in), H3 I/O30 D6 (io), H4 I/O26 D2 (io), H5 I/O24 D0 (io), H6 I/O34 E2 (io), H7 GND (power), H8 I/O46 F6 (io), H9 I/O45 F5 (io), H10 I/O44 F4 (io), J1 TMS (in), J2 GND (power), J3 I/O29 D5 (io), J4 I2 (in), J5 VCC (power), J6 I/O32 E0 (io), J7 I/O38 E6 (io), J8 GND (power), J9 ~{ENABLE} (in), J10 I/O47 F7 (io), K1 GND (power), K2 I/O31 D7 (io), K3 I/O28 D4 (io), K4 I/O25 D1 (io), K5 GND (power), K6 GND (power), K7 I/O33 E1 (io), K8 I/O36 E4 (io), K9 I/O39 E7 (io), K10 GND (power)

## M4A3-128/64-10CAI
designator U?
High-Performance EE CMOS In-System Programmable Logic; Published: 17-Jul-2002; LatestRevisionDate: 13-Apr-2006; LatestRevisionNote: IPC-7351 Footprint Added.; DatasheetVersion: Feb-2001; PackageVersion: pkg_32, Aug-2005; PackageReference: CaBGA100; Publisher: Altium Limited; PackageDescription: 100-Ball Chip Array Ball Grid Array (caBGA100); ComponentLink1Description: Manufacturer Link; ComponentLink1URL: http://www.latticesemi.com/products/mature/index.cfm; ComponentLink2Description: Datasheet; ComponentLink2URL: http://www.latticesemi.com/account/_download.cfm?AMID=1344
footprint caBGA100 (BGA, 100-Leads, Body 10x10mm, Pitch 0.8mm)
3D model M4A3-CaBGA100 (100-Ball Chip Array Ball Grid Array (caBGA100))
pins: A1 GND (power), A2 I/O7 A7 (io), A3 I/O4 A4 (io), A4 I/O1 A1 (io), A5 GND (power), A6 GND (power), A7 I/O57 H1 (io), A8 I/O60 H4 (io), A9 I/O63 H7 (io), A10 GND (power), B1 I/O15 B7 (io), B2 TDI (in), B3 GND (power), B4 I/O6 A6 (io), B5 I/O0 A0 (io), B6 VCC (power), B7 I5 (in), B8 I/O61 H5 (io), B9 GND (power), B10 ~{TRST} (in), C1 I/O12 B4 (io), C2 I/O13 B5 (io), C3 I/O14 B6 (io), C4 GND (power), C5 I/O2 A2 (io), C6 I/O56 H0 (io), C7 I/O58 H2 (io), C8 I/O62 H6 (io), C9 TDO (out), C10 I/O53 G5 (io), D1 I/O9 B1 (io), D2 CLK0/I0 (in), D3 I/O10 B2 (io), D4 I/O11 B3 (io), D5 I/O5 A5 (io), D6 I/O3 A3 (io), D7 I/O59 H3 (io), D8 GND (power), D9 I/O55 G7 (io), D10 I/O50 G2 (io), E1 GND (power), E2 VCC (power), E3 I/O8 B0 (io), E4 I/O20 C4 (io), E5 I/O16 C0 (io), E6 VCC (power), E7 I/O54 G6 (io), E8 I/O51 G3 (io), E9 I/O49 G1 (io), E10 CLK3/I3 (in), F1 CLK1/I1 (in), F2 I/O17 C1 (io), F3 I/O19 C3 (io), F4 I/O22 C6 (io), F5 VCC (power), F6 I/O48 G0 (io), F7 I/O52 G4 (io), F8 I/O40 F0 (io), F9 VCC (power), F10 GND (power), G1 I/O18 C2 (io), G2 I/O23 C7 (io), G3 GND (power), G4 I/O27 D3 (io), G5 I/O35 E3 (io), G6 I/O37 E5 (io), G7 I/O43 F3 (io), G8 I/O42 F2 (io), G9 CLK2/I2 (in), G10 I/O41 F1 (io), H1 I/O21 C5 (io), H2 TCK (in), H3 I/O30 D6 (io), H4 I/O26 D2 (io), H5 I/O24 D0 (io), H6 I/O34 E2 (io), H7 GND (power), H8 I/O46 F6 (io), H9 I/O45 F5 (io), H10 I/O44 F4 (io), J1 TMS (in), J2 GND (power), J3 I/O29 D5 (io), J4 I2 (in), J5 VCC (power), J6 I/O32 E0 (io), J7 I/O38 E6 (io), J8 GND (power), J9 ~{ENABLE} (in), J10 I/O47 F7 (io), K1 GND (power), K2 I/O31 D7 (io), K3 I/O28 D4 (io), K4 I/O25 D1 (io), K5 GND (power), K6 GND (power), K7 I/O33 E1 (io), K8 I/O36 E4 (io), K9 I/O39 E7 (io), K10 GND (power)

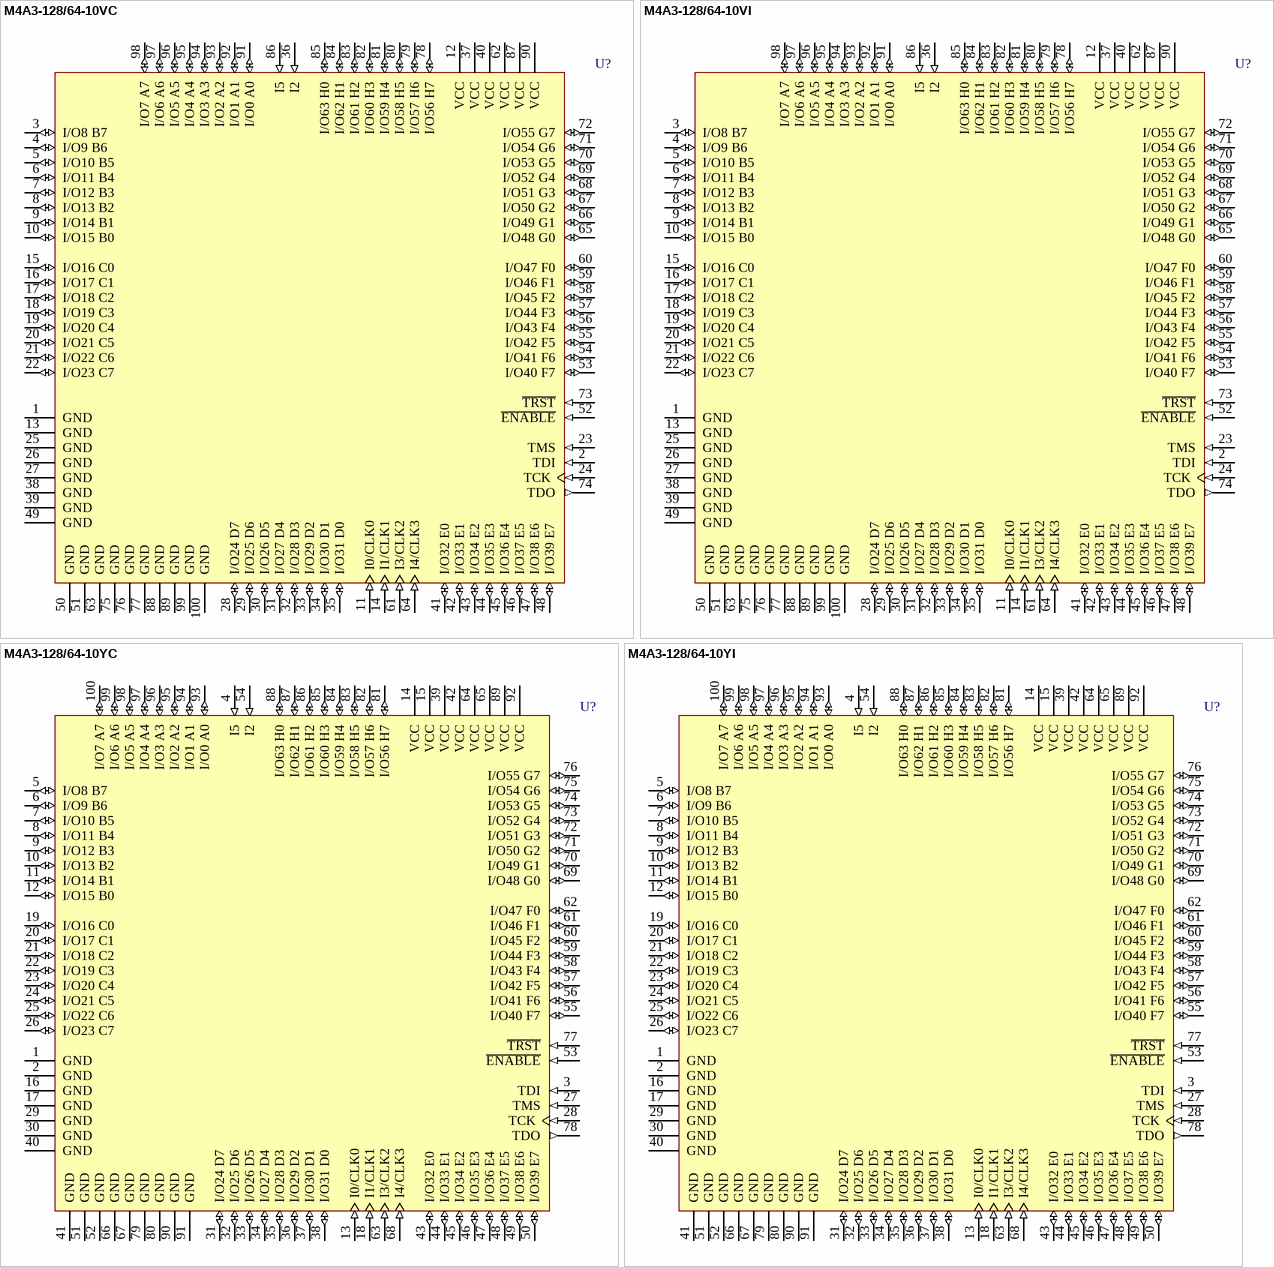
[diagram p34: symbols M4A3-128/64-10VC to M4A3-128/64-10YI]

## M4A3-128/64-10VC
designator U?
High-Performance EE CMOS In-System Programmable Logic; Published: 17-Jul-2002; LatestRevisionDate: 13-Apr-2006; LatestRevisionNote: IPC-7351 Footprint Added.; DatasheetVersion: Feb-2001; PackageVersion: pkg_32, Aug-2005; PackageReference: TQFP100; Publisher: Altium Limited; PackageDescription: 100-Pin Thin Quad Flat Pack (TQFP100); Code_JEDEC: MS-026-BED; ComponentLink1Description: Manufacturer Link; ComponentLink1URL: http://www.latticesemi.com/products/mature/index.cfm; ComponentLink2Description: Datasheet; ComponentLink2URL: http://www.latticesemi.com/account/_download.cfm?AMID=1344
footprint TQFP100_N (Thin QFP, 100-Leads, Body 14x14mm, Pitch 0.5mm, IPC Medium Density)
footprint TQFP100_L (Thin QFP, 100-Leads, Body 14x14mm, Pitch 0.5mm, IPC High Density)
footprint TQFP100_M (Thin QFP, 100-Leads, Body 14x14mm, Pitch 0.5mm, IPC Low Density)
3D model M4A3-TQFP100 (100-Pin Thin Quad Flat Pack (TQFP100))
pins: 1 GND (power), 2 TDI (in), 3 I/O8 B7 (io), 4 I/O9 B6 (io), 5 I/O10 B5 (io), 6 I/O11 B4 (io), 7 I/O12 B3 (io), 8 I/O13 B2 (io), 9 I/O14 B1 (io), 10 I/O15 B0 (io), 11 I0/CLK0 (in), 12 VCC (power), 13 GND (power), 14 I1/CLK1 (in), 15 I/O16 C0 (io), 16 I/O17 C1 (io), 17 I/O18 C2 (io), 18 I/O19 C3 (io), 19 I/O20 C4 (io), 20 I/O21 C5 (io), 21 I/O22 C6 (io), 22 I/O23 C7 (io), 23 TMS (in), 24 TCK (in), 25 GND (power), 26 GND (power), 27 GND (power), 28 I/O24 D7 (io), 29 I/O25 D6 (io), 30 I/O26 D5 (io), 31 I/O27 D4 (io), 32 I/O28 D3 (io), 33 I/O29 D2 (io), 34 I/O30 D1 (io), 35 I/O31 D0 (io), 36 I2 (in), 37 VCC (power), 38 GND (power), 39 GND (power), 40 VCC (power), 41 I/O32 E0 (io), 42 I/O33 E1 (io), 43 I/O34 E2 (io), 44 I/O35 E3 (io), 45 I/O36 E4 (io), 46 I/O37 E5 (io), 47 I/O38 E6 (io), 48 I/O39 E7 (io), 49 GND (power), 50 GND (power), 51 GND (power), 52 ~{ENABLE} (in), 53 I/O40 F7 (io), 54 I/O41 F6 (io), 55 I/O42 F5 (io), 56 I/O43 F4 (io), 57 I/O44 F3 (io), 58 I/O45 F2 (io), 59 I/O46 F1 (io), 60 I/O47 F0 (io), 61 I3/CLK2 (in), 62 VCC (power), 63 GND (power), 64 I4/CLK3 (in), 65 I/O48 G0 (io), 66 I/O49 G1 (io), 67 I/O50 G2 (io), 68 I/O51 G3 (io), 69 I/O52 G4 (io), 70 I/O53 G5 (io), 71 I/O54 G6 (io), 72 I/O55 G7 (io), 73 ~{TRST} (in), 74 TDO (out), 75 GND (power), 76 GND (power), 77 GND (power), 78 I/O56 H7 (io), 79 I/O57 H6 (io), 80 I/O58 H5 (io), 81 I/O59 H4 (io), 82 I/O60 H3 (io), 83 I/O61 H2 (io), 84 I/O62 H1 (io), 85 I/O63 H0 (io), 86 I5 (in), 87 VCC (power), 88 GND (power), 89 GND (power), 90 VCC (power), 91 I/O0 A0 (io), 92 I/O1 A1 (io), 93 I/O2 A2 (io), 94 I/O3 A3 (io), 95 I/O4 A4 (io), 96 I/O5 A5 (io), 97 I/O6 A6 (io), 98 I/O7 A7 (io), 99 GND (power), 100 GND (power)

## M4A3-128/64-10VI
designator U?
High-Performance EE CMOS In-System Programmable Logic; Published: 17-Jul-2002; LatestRevisionDate: 13-Apr-2006; LatestRevisionNote: IPC-7351 Footprint Added.; DatasheetVersion: Feb-2001; PackageVersion: pkg_32, Aug-2005; PackageReference: TQFP100; Publisher: Altium Limited; PackageDescription: 100-Pin Thin Quad Flat Pack (TQFP100); Code_JEDEC: MS-026-BED; ComponentLink1Description: Manufacturer Link; ComponentLink1URL: http://www.latticesemi.com/products/mature/index.cfm; ComponentLink2Description: Datasheet; ComponentLink2URL: http://www.latticesemi.com/account/_download.cfm?AMID=1344
footprint TQFP100_N (Thin QFP, 100-Leads, Body 14x14mm, Pitch 0.5mm, IPC Medium Density)
footprint TQFP100_L (Thin QFP, 100-Leads, Body 14x14mm, Pitch 0.5mm, IPC High Density)
footprint TQFP100_M (Thin QFP, 100-Leads, Body 14x14mm, Pitch 0.5mm, IPC Low Density)
3D model M4A3-TQFP100 (100-Pin Thin Quad Flat Pack (TQFP100))
pins: 1 GND (power), 2 TDI (in), 3 I/O8 B7 (io), 4 I/O9 B6 (io), 5 I/O10 B5 (io), 6 I/O11 B4 (io), 7 I/O12 B3 (io), 8 I/O13 B2 (io), 9 I/O14 B1 (io), 10 I/O15 B0 (io), 11 I0/CLK0 (in), 12 VCC (power), 13 GND (power), 14 I1/CLK1 (in), 15 I/O16 C0 (io), 16 I/O17 C1 (io), 17 I/O18 C2 (io), 18 I/O19 C3 (io), 19 I/O20 C4 (io), 20 I/O21 C5 (io), 21 I/O22 C6 (io), 22 I/O23 C7 (io), 23 TMS (in), 24 TCK (in), 25 GND (power), 26 GND (power), 27 GND (power), 28 I/O24 D7 (io), 29 I/O25 D6 (io), 30 I/O26 D5 (io), 31 I/O27 D4 (io), 32 I/O28 D3 (io), 33 I/O29 D2 (io), 34 I/O30 D1 (io), 35 I/O31 D0 (io), 36 I2 (in), 37 VCC (power), 38 GND (power), 39 GND (power), 40 VCC (power), 41 I/O32 E0 (io), 42 I/O33 E1 (io), 43 I/O34 E2 (io), 44 I/O35 E3 (io), 45 I/O36 E4 (io), 46 I/O37 E5 (io), 47 I/O38 E6 (io), 48 I/O39 E7 (io), 49 GND (power), 50 GND (power), 51 GND (power), 52 ~{ENABLE} (in), 53 I/O40 F7 (io), 54 I/O41 F6 (io), 55 I/O42 F5 (io), 56 I/O43 F4 (io), 57 I/O44 F3 (io), 58 I/O45 F2 (io), 59 I/O46 F1 (io), 60 I/O47 F0 (io), 61 I3/CLK2 (in), 62 VCC (power), 63 GND (power), 64 I4/CLK3 (in), 65 I/O48 G0 (io), 66 I/O49 G1 (io), 67 I/O50 G2 (io), 68 I/O51 G3 (io), 69 I/O52 G4 (io), 70 I/O53 G5 (io), 71 I/O54 G6 (io), 72 I/O55 G7 (io), 73 ~{TRST} (in), 74 TDO (out), 75 GND (power), 76 GND (power), 77 GND (power), 78 I/O56 H7 (io), 79 I/O57 H6 (io), 80 I/O58 H5 (io), 81 I/O59 H4 (io), 82 I/O60 H3 (io), 83 I/O61 H2 (io), 84 I/O62 H1 (io), 85 I/O63 H0 (io), 86 I5 (in), 87 VCC (power), 88 GND (power), 89 GND (power), 90 VCC (power), 91 I/O0 A0 (io), 92 I/O1 A1 (io), 93 I/O2 A2 (io), 94 I/O3 A3 (io), 95 I/O4 A4 (io), 96 I/O5 A5 (io), 97 I/O6 A6 (io), 98 I/O7 A7 (io), 99 GND (power), 100 GND (power)

## M4A3-128/64-10YC
designator U?
High-Performance EE CMOS In-System Programmable Logic; Published: 17-Jul-2002; LatestRevisionDate: 13-Apr-2006; LatestRevisionNote: IPC-7351 Footprint Added.; DatasheetVersion: Feb-2001; PackageVersion: pkg_32, Aug-2005; PackageReference: PQFP100; Publisher: Altium Limited; PackageDescription: 100-Pin Quad Flat Pack Rectangular 0.65 mm Pitch; Code_IPC: QFP65P1720X2320-100; ComponentLink1Description: Manufacturer Link; ComponentLink1URL: http://www.latticesemi.com/products/mature/index.cfm; ComponentLink2Description: Datasheet; ComponentLink2URL: http://www.latticesemi.com/account/_download.cfm?AMID=1344
footprint PQFP100_N (QFP, 100-Leads, Body 20x14mm, Pitch 0.65mm, IPC Medium Density)
footprint PQFP100_L (QFP, 100-Leads, Body 20x14mm, Pitch 0.65mm, IPC High Density)
footprint PQFP100_M (QFP, 100-Leads, Body 20x14mm, Pitch 0.65mm, IPC Low Density)
3D model PQFP-100 (100-Pin Quad Flat Pack Rectangular 0.65 mm Pitch)
pins: 1 GND (power), 2 GND (power), 3 TDI (in), 4 I5 (in), 5 I/O8 B7 (io), 6 I/O9 B6 (io), 7 I/O10 B5 (io), 8 I/O11 B4 (io), 9 I/O12 B3 (io), 10 I/O13 B2 (io), 11 I/O14 B1 (io), 12 I/O15 B0 (io), 13 I0/CLK0 (in), 14 VCC (power), 15 VCC (power), 16 GND (power), 17 GND (power), 18 I1/CLK1 (in), 19 I/O16 C0 (io), 20 I/O17 C1 (io), 21 I/O18 C2 (io), 22 I/O19 C3 (io), 23 I/O20 C4 (io), 24 I/O21 C5 (io), 25 I/O22 C6 (io), 26 I/O23 C7 (io), 27 TMS (in), 28 TCK (in), 29 GND (power), 30 GND (power), 31 I/O24 D7 (io), 32 I/O25 D6 (io), 33 I/O26 D5 (io), 34 I/O27 D4 (io), 35 I/O28 D3 (io), 36 I/O29 D2 (io), 37 I/O30 D1 (io), 38 I/O31 D0 (io), 39 VCC (power), 40 GND (power), 41 GND (power), 42 VCC (power), 43 I/O32 E0 (io), 44 I/O33 E1 (io), 45 I/O34 E2 (io), 46 I/O35 E3 (io), 47 I/O36 E4 (io), 48 I/O37 E5 (io), 49 I/O38 E6 (io), 50 I/O39 E7 (io), 51 GND (power), 52 GND (power), 53 ~{ENABLE} (in), 54 I2 (in), 55 I/O40 F7 (io), 56 I/O41 F6 (io), 57 I/O42 F5 (io), 58 I/O43 F4 (io), 59 I/O44 F3 (io), 60 I/O45 F2 (io), 61 I/O46 F1 (io), 62 I/O47 F0 (io), 63 I3/CLK2 (in), 64 VCC (power), 65 VCC (power), 66 GND (power), 67 GND (power), 68 I4/CLK3 (in), 69 I/O48 G0 (io), 70 I/O49 G1 (io), 71 I/O50 G2 (io), 72 I/O51 G3 (io), 73 I/O52 G4 (io), 74 I/O53 G5 (io), 75 I/O54 G6 (io), 76 I/O55 G7 (io), 77 ~{TRST} (in), 78 TDO (out), 79 GND (power), 80 GND (power), 81 I/O56 H7 (io), 82 I/O57 H6 (io), 83 I/O58 H5 (io), 84 I/O59 H4 (io), 85 I/O60 H3 (io), 86 I/O61 H2 (io), 87 I/O62 H1 (io), 88 I/O63 H0 (io), 89 VCC (power), 90 GND (power), 91 GND (power), 92 VCC (power), 93 I/O0 A0 (io), 94 I/O1 A1 (io), 95 I/O2 A2 (io), 96 I/O3 A3 (io), 97 I/O4 A4 (io), 98 I/O5 A5 (io), 99 I/O6 A6 (io), 100 I/O7 A7 (io)

## M4A3-128/64-10YI
designator U?
High-Performance EE CMOS In-System Programmable Logic; Published: 17-Jul-2002; LatestRevisionDate: 13-Apr-2006; LatestRevisionNote: IPC-7351 Footprint Added.; DatasheetVersion: Feb-2001; PackageVersion: pkg_32, Aug-2005; PackageReference: PQFP100; Publisher: Altium Limited; PackageDescription: 100-Pin Quad Flat Pack Rectangular 0.65 mm Pitch; Code_IPC: QFP65P1720X2320-100; ComponentLink1Description: Manufacturer Link; ComponentLink1URL: http://www.latticesemi.com/products/mature/index.cfm; ComponentLink2Description: Datasheet; ComponentLink2URL: http://www.latticesemi.com/account/_download.cfm?AMID=1344
footprint PQFP100_N (QFP, 100-Leads, Body 20x14mm, Pitch 0.65mm, IPC Medium Density)
footprint PQFP100_L (QFP, 100-Leads, Body 20x14mm, Pitch 0.65mm, IPC High Density)
footprint PQFP100_M (QFP, 100-Leads, Body 20x14mm, Pitch 0.65mm, IPC Low Density)
3D model PQFP-100 (100-Pin Quad Flat Pack Rectangular 0.65 mm Pitch)
pins: 1 GND (power), 2 GND (power), 3 TDI (in), 4 I5 (in), 5 I/O8 B7 (io), 6 I/O9 B6 (io), 7 I/O10 B5 (io), 8 I/O11 B4 (io), 9 I/O12 B3 (io), 10 I/O13 B2 (io), 11 I/O14 B1 (io), 12 I/O15 B0 (io), 13 I0/CLK0 (in), 14 VCC (power), 15 VCC (power), 16 GND (power), 17 GND (power), 18 I1/CLK1 (in), 19 I/O16 C0 (io), 20 I/O17 C1 (io), 21 I/O18 C2 (io), 22 I/O19 C3 (io), 23 I/O20 C4 (io), 24 I/O21 C5 (io), 25 I/O22 C6 (io), 26 I/O23 C7 (io), 27 TMS (in), 28 TCK (in), 29 GND (power), 30 GND (power), 31 I/O24 D7 (io), 32 I/O25 D6 (io), 33 I/O26 D5 (io), 34 I/O27 D4 (io), 35 I/O28 D3 (io), 36 I/O29 D2 (io), 37 I/O30 D1 (io), 38 I/O31 D0 (io), 39 VCC (power), 40 GND (power), 41 GND (power), 42 VCC (power), 43 I/O32 E0 (io), 44 I/O33 E1 (io), 45 I/O34 E2 (io), 46 I/O35 E3 (io), 47 I/O36 E4 (io), 48 I/O37 E5 (io), 49 I/O38 E6 (io), 50 I/O39 E7 (io), 51 GND (power), 52 GND (power), 53 ~{ENABLE} (in), 54 I2 (in), 55 I/O40 F7 (io), 56 I/O41 F6 (io), 57 I/O42 F5 (io), 58 I/O43 F4 (io), 59 I/O44 F3 (io), 60 I/O45 F2 (io), 61 I/O46 F1 (io), 62 I/O47 F0 (io), 63 I3/CLK2 (in), 64 VCC (power), 65 VCC (power), 66 GND (power), 67 GND (power), 68 I4/CLK3 (in), 69 I/O48 G0 (io), 70 I/O49 G1 (io), 71 I/O50 G2 (io), 72 I/O51 G3 (io), 73 I/O52 G4 (io), 74 I/O53 G5 (io), 75 I/O54 G6 (io), 76 I/O55 G7 (io), 77 ~{TRST} (in), 78 TDO (out), 79 GND (power), 80 GND (power), 81 I/O56 H7 (io), 82 I/O57 H6 (io), 83 I/O58 H5 (io), 84 I/O59 H4 (io), 85 I/O60 H3 (io), 86 I/O61 H2 (io), 87 I/O62 H1 (io), 88 I/O63 H0 (io), 89 VCC (power), 90 GND (power), 91 GND (power), 92 VCC (power), 93 I/O0 A0 (io), 94 I/O1 A1 (io), 95 I/O2 A2 (io), 96 I/O3 A3 (io), 97 I/O4 A4 (io), 98 I/O5 A5 (io), 99 I/O6 A6 (io), 100 I/O7 A7 (io)

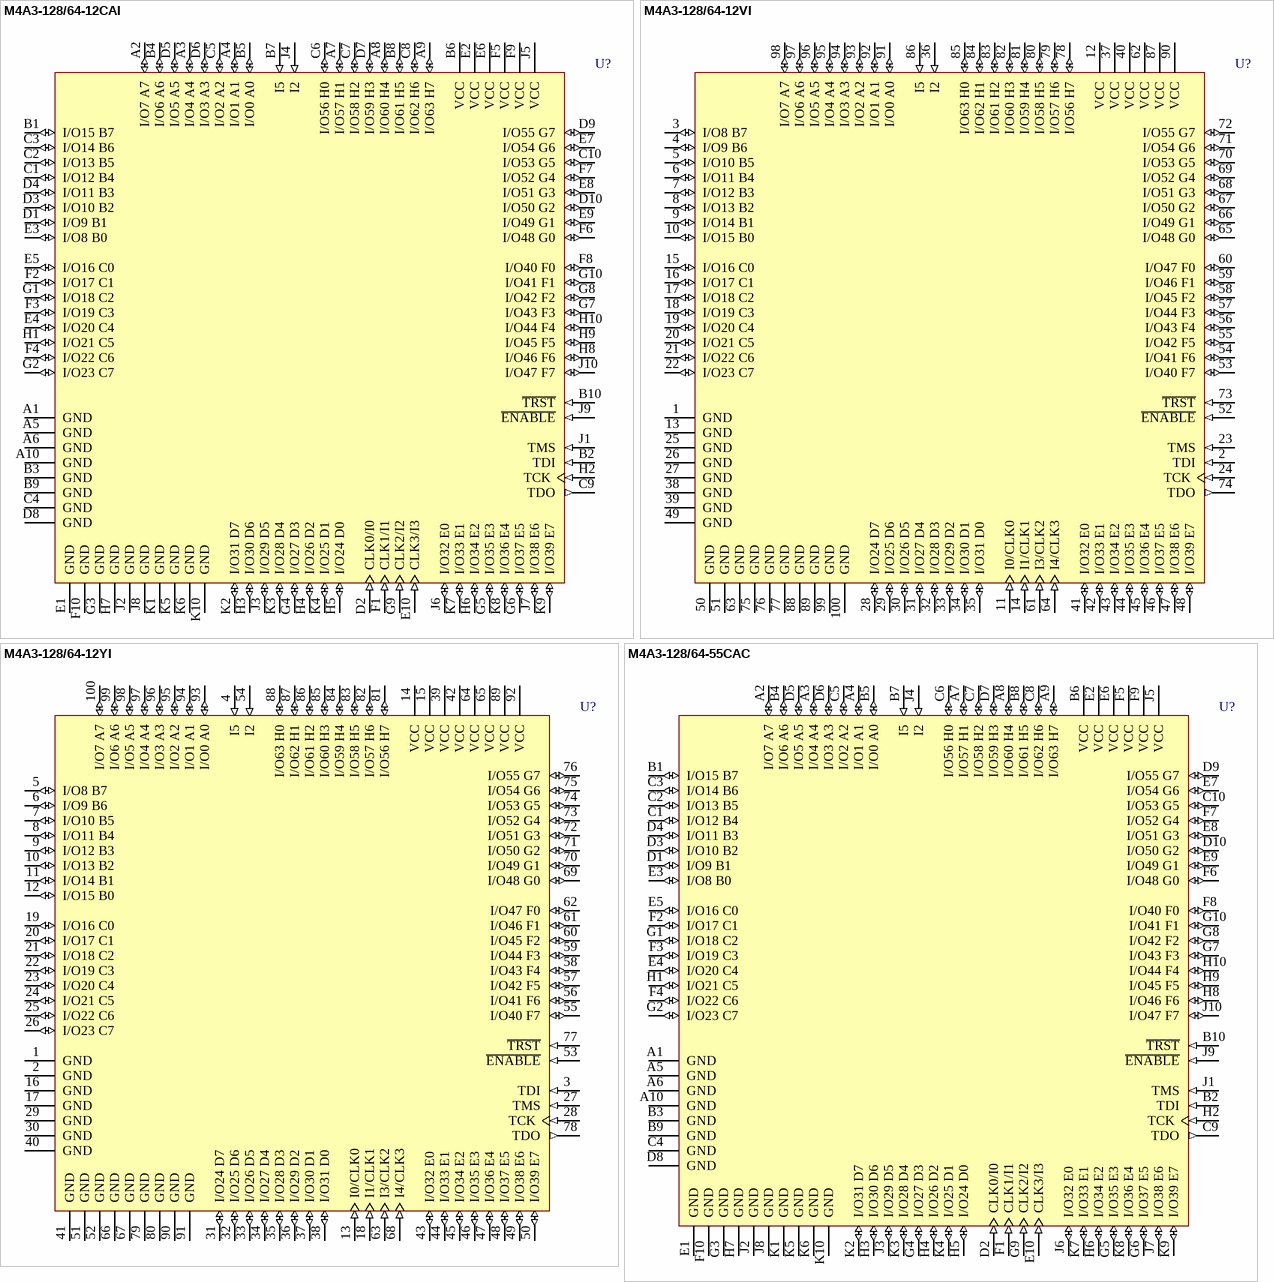
[diagram p35: symbols M4A3-128/64-12CAI to M4A3-128/64-55CAC]